# Altium schematic symbol library Sajad_Altium_Library.SchLib: 390 symbols (part 3 of 4)
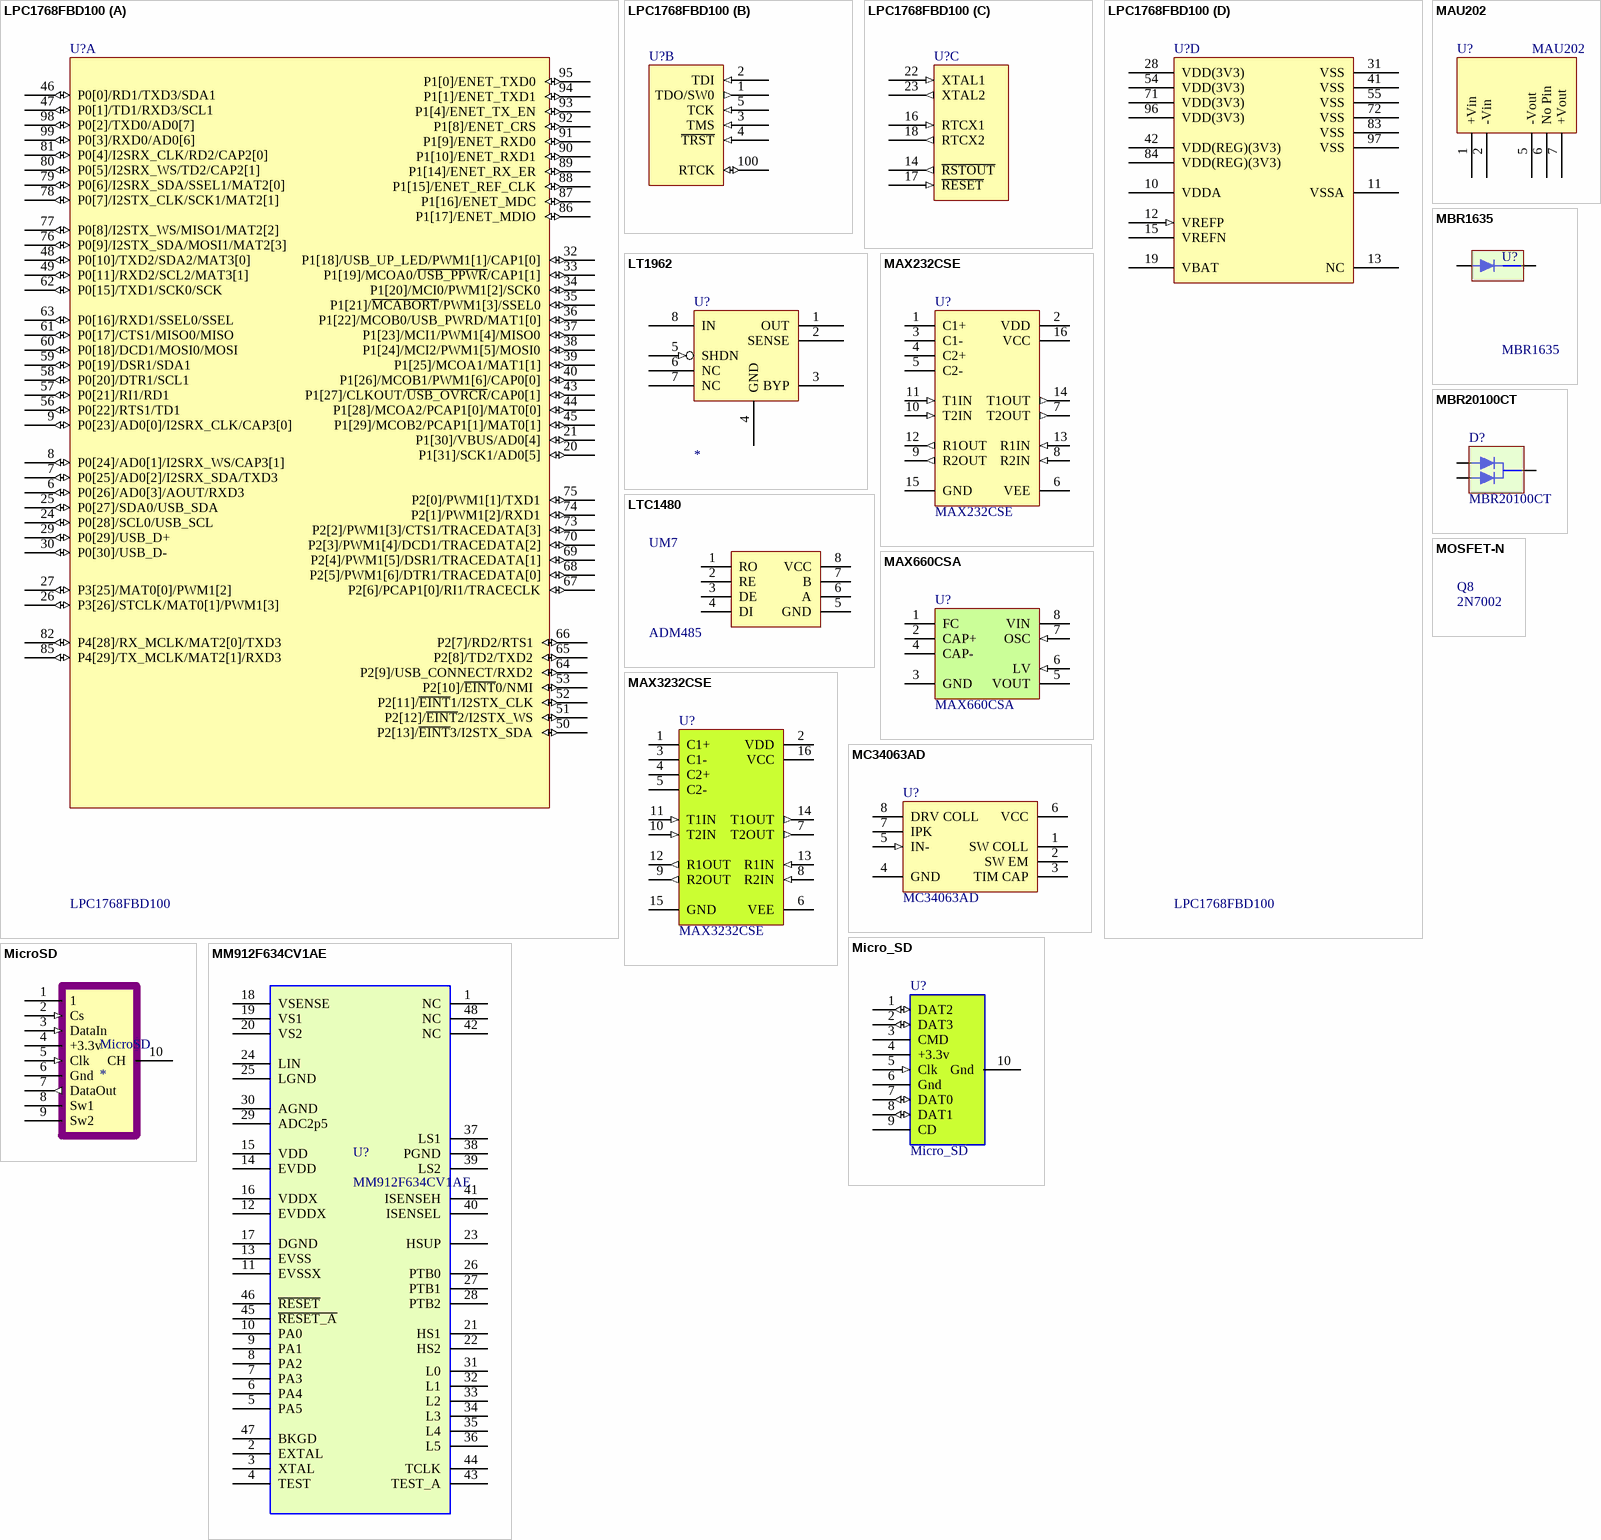
[diagram p21: symbols LPC1768FBD100 to MOSFET-N]

## MAX3232CSE
designator U?
3.0V to 5.5V, Low-Power, up to 1Mbps, True RS-232  Transceivers Using Four 0.1µF External Capacitors; Published: 16-Jan-2001; LatestRevisionDate: 13-Apr-2006; LatestRevisionNote: IPC-7351 Footprint Added.; PackageReference: NSO16; Publisher: Altium Limited; PackageDescription: 16-Pin Small Outline Integrated Circuit 1.27 mm Pitch; Code_JEDEC: MS-012-AC; Code_IPC: SOIC127P600-16; ComponentLink1Description: Manufacturer Link; ComponentLink1URL: http://www.maxim-ic.com/; ComponentLink2Description: Datasheet; ComponentLink2URL: http://pdfserv.maxim-ic.com/en/ds/MAX220-MAX249.pdf
footprint SO16
pins: 1 C1+, 2 VDD (power), 3 C1-, 4 C2+, 5 C2-, 6 VEE (power), 7 T2OUT (out), 8 R2IN (in), 9 R2OUT (out), 10 T2IN (in), 11 T1IN (in), 12 R1OUT (out), 13 R1IN (in), 14 T1OUT (out), 15 GND (power), 16 VCC (power)

## MBR1635
designator U?
16A Schottky Barrier Rectifier; Link: http://javanelec.com/Shops/ProductDetail/37828?part_number=MBR1635
footprint TO220 - ac (TO220)
pins: 1 A, 2 K

## MBR20100CT
designator D?
SCHOTTKY BARRIER 20 AMPERES 80−100 VOLTS
footprint TO220
pins: 1 A1, 2 K, 3 A2

## MC34063AD
designator U?
DC-to-DC Converter Control Circuit; Published: 15-Apr-2002; LatestRevisionDate: 13-Apr-2006; LatestRevisionNote: IPC-7351 Footprint Added.; DatasheetVersion: 1996; PackageVersion: 1998; PackageReference: 751-05; Publisher: Altium Limited; PackageDescription: 8-Pin Small Outline Integrated Circuit 1.27 mm Pitch; Code_JEDEC: MS-012-AA; Code_IPC: SOIC127P600-8; ComponentLink1Description: Manufacturer Link; ComponentLink1URL: http://www.onsemi.com/site/products/taxonomy/0,4438,503,00.html; ComponentLink2Description: Datasheet; ComponentLink2URL: http://www.onsemi.com/pub/Collateral/MC34063A-D.PDF
footprint SO8
pins: 1 SW COLL, 2 SW EM, 3 TIM CAP, 4 GND (power), 5 IN- (in), 6 VCC (power), 7 IPK, 8 DRV COLL (oc)

## Micro_SD
designator U?
Micro sd in SD MODE 4pin
footprint MicroSd (MicroSd Conector)
footprint MicroSd Connector (MicroSd Conector)
pins: 1 DAT2 (io), 2 DAT3 (io), 3 CMD, 4 +3.3v, 5 Clk (in), 6 Gnd, 7 DAT0 (io), 8 DAT1 (io), 9 CD, 10 Gnd

## MicroSD
designator MicroSD
footprint MicroSd (MicroSd Conector)
footprint MicroSd Connector (MicroSd Conector)
pins: 1, 2 Cs (in), 3 DataIn (in), 4 +3.3v, 5 Clk (in), 6 Gnd, 7 DataOut (out), 8 Sw1, 9 Sw2, 10 CH

## MM912F634CV1AE
designator U?
Integrated S12 Based Relay  Driver with LIN
footprint TQFP48_M (48-Pin Thin Quad Flat Pack 0.5 mm Pitch, IPC Low Density)
pins: 1 NC, 2 EXTAL, 3 XTAL, 4 TEST, 5 PA5, 6 PA4, 7 PA3, 8 PA2, 9 PA1, 10 PA0, 11 EVSSX, 12 EVDDX, 13 EVSS, 14 EVDD, 15 VDD, 16 VDDX, 17 DGND, 18 VSENSE, 19 VS1, 20 VS2, 21 HS1, 22 HS2, 23 HSUP, 24 LIN, 25 LGND, 26 PTB0, 27 PTB1, 28 PTB2, 29 ADC2p5, 30 AGND, 31 L0, 32 L1, 33 L2, 34 L3, 35 L4, 36 L5, 37 LS1, 38 PGND, 39 LS2, 40 ISENSEL, 41 ISENSEH, 42 NC, 43 TEST_A, 44 TCLK, 45 ~{RESET_A}, 46 ~{RESET}, 47 BKGD, 48 NC

## MOSFET-N
designator Q8, comment 2N7002
N-Channel MOSFET; Published: 8-Jun-2000; LatestRevisionDate: 17-Jul-2002; LatestRevisionNote: Re-released for DXP Platform.; PackageVersion: 1995/1996; PackageReference: E3; Publisher: Altium Limited; PackageDescription: TO, Flat Index; 3 In-Line, Axial Leads; Body Dia. 4.6mm; Lead Dia. 0.5 mm (max)
footprint E3 (TO, Flat Index; 3 In-Line, Axial Leads; Body Dia. 4.6mm; Lead Dia. 0.5 mm (max))
simulation model NMOS (MOSFET-N)

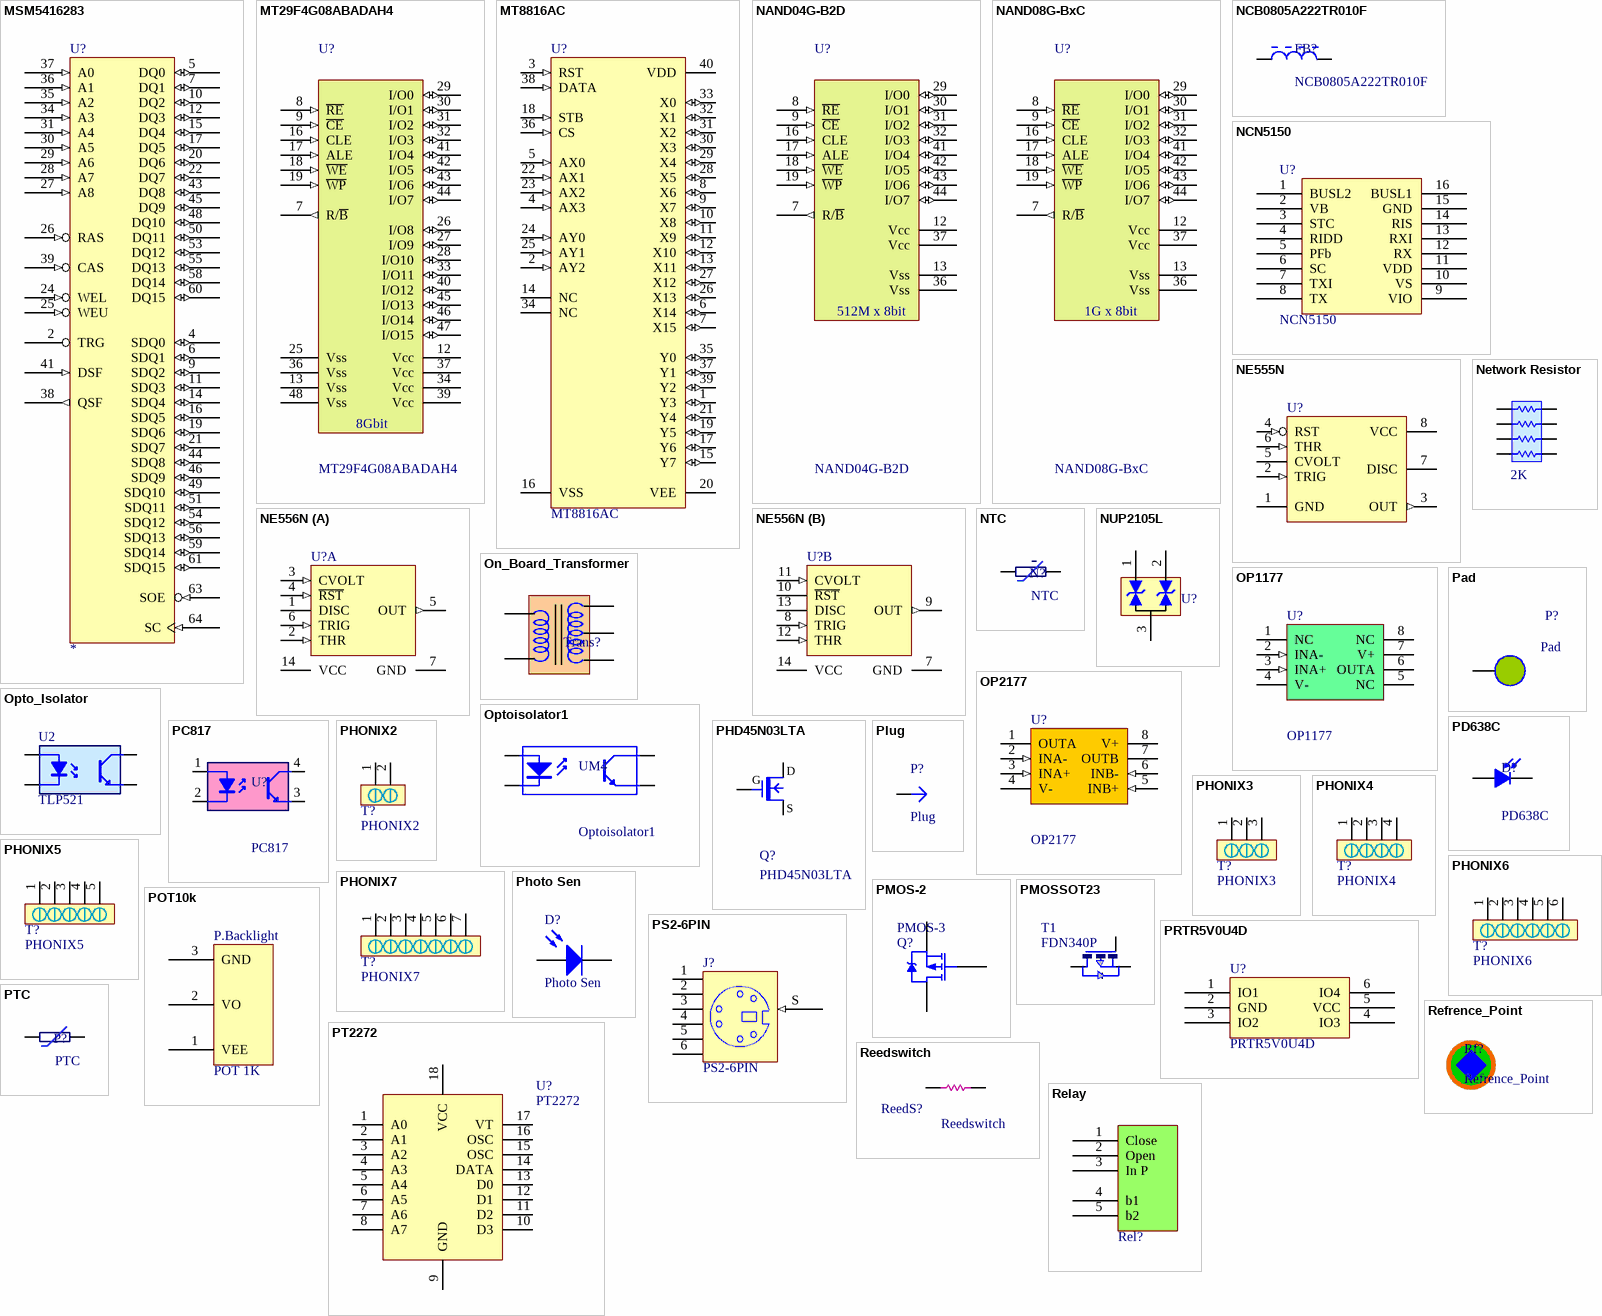
[diagram p11: symbols MSM5416283 to Relay]

## MSM5416283
designator U?
262,144-Word x 16-Bit Multiport DRAM
footprint SSOP64
pins: 1 VCC (power) hidden to VCC, 2 TRG, 3 GND (power) hidden to GND, 4 SDQ0 (io), 5 DQ0 (io), 6 SDQ1 (io), 7 DQ1 (io), 8 VCC (power) hidden to VCC, 9 SDQ2 (io), 10 DQ2 (io), 11 SDQ3 (io), 12 DQ3 (io), 13 GND (power) hidden to GND, 14 SDQ4 (io), 15 DQ4 (io), 16 SDQ5 (io), 17 DQ5 (io), 18 VCC (power) hidden to VCC, 19 SDQ6 (io), 20 DQ6 (io), 21 SDQ7 (io), 22 DQ7 (io), 23 GND (power) hidden to GND, 24 WEL (in), 25 WEU (in), 26 RAS (in), 27 A8 (in), 28 A7 (in), 29 A6 (in), 30 A5 (in), 31 A4 (in), 32 VCC (power) hidden to VCC, 33 GND (power) hidden to GND, 34 A3 (in), 35 A2 (in), 36 A1 (in), 37 A0 (in), 38 QSF (out), 39 CAS (in), 41 DSF (in), 42 GND (power) hidden to GND, 43 DQ8 (io), 44 SDQ8 (io), 45 DQ9 (io), 46 SDQ9 (io), 47 VCC (power) hidden to VCC, 48 DQ10 (io), 49 SDQ10 (io), 50 DQ11 (io), 51 SDQ11 (io), 52 GND (power) hidden to GND, 53 DQ12 (io), 54 SDQ12 (io), 55 DQ13 (io), 56 SDQ13 (io), 57 VCC (power) hidden to VCC, 58 DQ14 (io), 59 SDQ14 (io), 60 DQ15 (io), 61 SDQ15 (io), 62 GND (power) hidden to GND, 63 SOE (in), 64 SC (in)

## MT29F4G08ABADAH4
designator U?
4Gb, 8Gb x8, x16 NAND Flash Memory  Features
footprint TSOP48 (Shrink Small Outline, Plastic, Thin; 48 Leads; Body Width 18.4 mm; Pitch 0.5 mm)
pins: 7 R/~{B} (out), 8 ~{RE} (in), 9 ~{CE} (in), 12 Vcc, 13 Vss, 16 CLE (in), 17 ALE (in), 18 ~{W}~{E} (in), 19 ~{W}~{P} (in), 25 Vss, 26 I/O8 (io), 27 I/O9 (io), 28 I/O10 (io), 29 I/O0 (io), 30 I/O1 (io), 31 I/O2 (io), 32 I/O3 (io), 33 I/O11 (io), 34 Vcc, 36 Vss, 37 Vcc, 39 Vcc, 40 I/O12 (io), 41 I/O4 (io), 42 I/O5 (io), 43 I/O6 (io), 44 I/O7 (io), 45 I/O13 (io), 46 I/O14 (io), 47 I/O15 (io), 48 Vss
text: 8Gbit

## MT8816AC
designator U?
8 X 16 Analog Switch Array; Published: 8-Jun-2000; LatestRevisionDate: 17-Jul-2002; LatestRevisionNote: Re-released for DXP Platform.; DatasheetVersion: Issue 2 November 1988; PackageVersion: 1995; PackageReference: CDIP40; Publisher: Altium Limited; PackageDescription: DIP; 40 Leads; Row Spacing 15.24 mm; Pitch 2.54 mm; Code_JEDEC: MS-011-AC; ComponentLink1Description: Manufacturer Link; ComponentLink1URL: http://products.zarlink.com; ComponentLink2Description: Datasheet; ComponentLink2URL: http://assets.zarlink.com/DS/zarlink_MT8816_FEB_05.pdf
footprint DIP40 (DIP 40 pin)
pins: 1 Y3 (io), 2 AY2 (in), 3 RST (in), 4 AX3 (in), 5 AX0 (in), 6 X14 (io), 7 X15 (io), 8 X6 (io), 9 X7 (io), 10 X8 (io), 11 X9 (io), 12 X10 (io), 13 X11 (io), 14 NC, 15 Y7 (io), 16 VSS (power), 17 Y6 (io), 18 STB (in), 19 Y5 (io), 20 VEE (power), 21 Y4 (io), 22 AX1 (in), 23 AX2 (in), 24 AY0 (in), 25 AY1 (in), 26 X13 (io), 27 X12 (io), 28 X5 (io), 29 X4 (io), 30 X3 (io), 31 X2 (io), 32 X1 (io), 33 X0 (io), 34 NC, 35 Y0 (io), 36 CS (in), 37 Y1 (io), 38 DATA (in), 39 Y2 (io), 40 VDD (power)

## NAND04G-B2D
designator U?
4-Gbit, 8-Gbit, 2112-byte/1056-word page Nand Flash
footprint TSOP48 (Shrink Small Outline, Plastic, Thin; 48 Leads; Body Width 18.4 mm; Pitch 0.5 mm)
pins: 7 R/~{B} (out), 8 ~{RE} (in), 9 ~{CE} (in), 12 Vcc, 13 Vss, 16 CLE (in), 17 ALE (in), 18 ~{W}~{E} (in), 19 ~{W}~{P} (in), 29 I/O0 (io), 30 I/O1 (io), 31 I/O2 (io), 32 I/O3 (io), 36 Vss, 37 Vcc, 41 I/O4 (io), 42 I/O5 (io), 43 I/O6 (io), 44 I/O7 (io)
text: 512M x 8bit

## NAND08G-BxC
designator U?
8-Gbit, 2112-byte/1056-word page nand Flash
footprint TSOP48 (Shrink Small Outline, Plastic, Thin; 48 Leads; Body Width 18.4 mm; Pitch 0.5 mm)
pins: 7 R/~{B} (out), 8 ~{RE} (in), 9 ~{CE} (in), 12 Vcc, 13 Vss, 16 CLE (in), 17 ALE (in), 18 ~{W}~{E} (in), 19 ~{W}~{P} (in), 29 I/O0 (io), 30 I/O1 (io), 31 I/O2 (io), 32 I/O3 (io), 36 Vss, 37 Vcc, 41 I/O4 (io), 42 I/O5 (io), 43 I/O6 (io), 44 I/O7 (io)
text: 1G x 8bit

## NCB0805A222TR010F
designator FB?
Ferrite Chip Beads 2200ohm @ 100Mhz 0.75mOhm 100mA; Manufacturer: NIC Components; Website: http://www.findchips.com/avail?part=NCB0805A222TR010F
footprint 0805
pins: 1, 2 8

## NCN5150
designator U?
footprint SO16
pins: 1 BUSL2, 2 VB, 3 STC, 4 RIDD, 5 PFb, 6 SC, 7 TXI, 8 TX, 9 VIO, 10 VS, 11 VDD, 12 RX, 13 RXI, 14 RIS, 15 GND, 16 BUSL1

## NE555N
designator U?
General-Purpose Single Bipolar Timer; Published: 24-Aug-2001; LatestRevisionDate: 06-Jun-2005; LatestRevisionNote: Stylized 3D Model Added.; DatasheetVersion: Jul-1998; PackageReference: DIP8; Publisher: Altium Limited; PackageDescription: DIP; 8 Leads; Row Spacing 7.62 mm; Pitch 2.54 mm; Code_JEDEC: MO-001-AN; ComponentLink1Description: Manufacturer Link; ComponentLink1URL: http://www.st.com/; ComponentLink2Description: Datasheet; ComponentLink2URL: http://www.st.com/stonline/products/literature/ds/2182/ne555.pdf
footprint SO8
footprint DIP8 (DIP; 8 Leads; Row Spacing 7.62 mm; Pitch 2.54 mm)
pins: 1 GND (power), 2 TRIG (in), 3 OUT (out), 4 RST (in), 5 CVOLT, 6 THR (in), 7 DISC (oc), 8 VCC (power)

## NE556N
designator U?
General-Purpose Dual Bipolar Timer; Published: 24-Aug-2001; LatestRevisionDate: 06-Jun-2005; LatestRevisionNote: Stylized 3D Model Added.; DatasheetVersion: Jul-1998; PackageVersion: Jan-1997; PackageReference: DIP14; Publisher: Altium Limited; PackageDescription: DIP; 14 Leads; Row Spacing 7.62 mm; Pitch 2.54 mm; ComponentLink1Description: Manufacturer Link; ComponentLink1URL: http://www.st.com/; ComponentLink2Description: Datasheet; ComponentLink2URL: http://www.st.com/stonline/products/literature/ds/2183/ne556.pdf
footprint DIP14 (DIP; 14 Leads; Row Spacing 7.62 mm; Pitch 2.54 mm)
footprint SO14_M (SOIC, 14-Leads, Body 8.7x3.9mm, Pitch 1.27mm, IPC Low Density)
pins on every part: 7 GND (power), 14 VCC (power)
part A pins: 1 DISC (oc), 2 THR (in), 3 CVOLT (in), 4 ~{RST} (in), 5 OUT (out), 6 TRIG (in)
part B pins: 8 TRIG (in), 9 OUT (out), 10 ~{RST}, 11 CVOLT (in), 12 THR (in), 13 DISC (oc)

## Network Resistor
designator RN?, comment 2K
footprint Network Resistor 0603
pins: 1, 2, 3, 4, 5, 6, 7, 8

## NTC
designator N?
Published: 8-Jun-2000; LatestRevisionDate: 17-Jul-2002; LatestRevisionNote: Re-released for DXP Platform.; PackageReference: AXIAL-0.3; Publisher: Altium Limited
pins: 1, 2
text: -

## NUP2105L
designator U?  (value not drawn)
TVS Zener Diode
footprint SO-G3/C2.5
pins: 1, 2, 3
2 alternate drawings of the same symbol

## On_Board_Transformer
designator Trans?, comment Transformer  (value not drawn)
Inductor; Code_IEC: 1005; Published: 8-Jun-2000; LatestRevisionDate: 17-Jul-2002; LatestRevisionNote: Re-released for DXP Platform.; PackageReference: 0402-A; Publisher: Altium Limited; Code_JEITA: 0402
footprint Transformer (On Board Transformer)
pins: 1 (power), 5, 7, 8, 9

## OP1177
designator U?
Precision Low Noise, Low Input  Bias Current Operational Amplifiers; Link: http://javanelec.com/productsDetails.aspx?id=20666; Price: 38850 Rial
footprint SO8
pins: 1 NC, 2 INA- (in), 3 INA+ (in), 4 V- (power), 5 NC (power), 6 OUTA, 7 V+ (power), 8 NC (power)

## OP2177
designator U?
Precision Low Noise, Low Input  Bias Current Operational Amplifiers; Link: http://javanelec.com/productsDetails.aspx?id=20666; Price: 38850 Rial
footprint SO8
pins: 1 OUTA, 2 INA- (in), 3 INA+ (in), 4 V- (power), 5 INB+ (in), 6 INB- (in), 7 OUTB (power), 8 V+ (power)

## Opto_Isolator
designator U2, comment TLP521
Optoisolator
footprint DIP-4 (DIP; 4 Leads; Row Spacing 7.62 mm; Pitch 2.54 mm)
footprint SOP4_M (c)
pins: 1 A "Anode", 2 K "Cathode", 3 E "Emitter", 4 C "Collector"

## Optoisolator1
designator UM4
4-Pin Phototransistor Optocoupler; Published: 24-Mar-1999; LatestRevisionDate: 04-Mar-2005; LatestRevisionNote: Sch pins 3 & 4 Swapped.; DatasheetVersion: Nov-2003; PackageReference: DIP-4; Publisher: Altium Limited
footprint PS2501L (Opto)
pins: 1 A "Anode", 2 K "Cathode", 3 E "Emitter", 4 C "Collector"

## Pad
designator P?
Pad for TouchPad
footprint TouchPadBig
footprint TouchPadSmall
pins: 1

## PC817
designator U?
DIP 4pin General Purpose  Photocoupler
footprint DIP-4 (DIP; 4 Leads; Row Spacing 7.62 mm; Pitch 2.54 mm)
pins: 1 A "Anode", 2 K "Cathode", 3 E "Emitter", 4 C "Collector"

## PD638C
designator D?
2.75 ×5.25 mm Silicon PIN Photodiode
footprint PD638C (2.75 ×5.25 mm Silicon PIN Photodiode)
pins: 1 A, 2 K

## PHD45N03LTA
designator Q?
25 A N-channel enhancement mode field-effect transistor
footprint TO-252; pin to pad 2>4
pins: 1 G, 2 D, 3 S

## PHONIX2
designator T?
footprint PHONIX2
pins: 1, 2

## PHONIX3
designator T?
footprint PHONIX3
pins: 1, 2, 3

## PHONIX4
designator T?
footprint PHONIX4
pins: 1, 2, 3, 4

## PHONIX5
designator T?
footprint PHONIX5
pins: 1, 2, 3, 4, 5

## PHONIX6
designator T?
footprint PHONIX6
pins: 1, 2, 3, 4, 5, 6

## PHONIX7
designator T?
footprint PHONIX7
pins: 1, 2, 3, 4, 5, 6, 7

## Photo Sen
designator D?
Photosensitive Diode; Published: 24-Mar-1999; LatestRevisionDate: 17-Jul-2002; LatestRevisionNote: Re-released for DXP Platform.; PackageReference: PIN2; Publisher: Altium Limited
footprint PIN2 (Photosensitive Diode; 2 Leads)
pins: 1 A, 2 K

## Plug
designator P?
LatestRevisionDate: 17-Jul-2002; LatestRevisionNote: Re-released for DXP Platform.; Publisher: Altium Limited
pins: 1

## PMOS-2
designator Q?, comment PMOS-3
P-Channel Power MOSFET; Note: Pin 4 not drawn and electrically connected to Pin 2.; Published: 8-Jun-2000; LatestRevisionDate: 17-Jul-2002; LatestRevisionNote: Re-released for DXP Platform.; DatasheetVersion: PD-9.390D; PackageVersion: Feb-1997; PackageReference: TO-220AB; Publisher: Altium Limited; PackageDescription: TO, Thru-Hole, Vertical, Heatsink Mounted; 3 In-Line Leads; Pitch 2.54 mm; ComponentLink1Description: Manufacturer Link; ComponentLink1URL: http://www.irf.com/
footprint FDN360P
simulation model IRF9510 (Spice Subcircuit)
pins: 1 G, 2 D, 3 S

## PMOSSOT23
designator T1, comment FDN340P
footprint SOT-23 (Small Outline Transistor)
pins: 1 D, 2 S, 3 G

## POT10k
designator P.Backlight, comment POT 1K
footprint POT10
pins: 1 VEE, 2 VO, 3 GND

## PRTR5V0U4D
designator U?
ESD_Suppressor
footprint ESD_PRTR5V0U4D
pins: 1 IO1, 2 GND, 3 IO2, 4 IO3, 5 VCC, 6 IO4

## PS2-6PIN
designator J?
6 Pin Through Hole PS2 Socket (Kycon P/N); Published: 17-Dec-2003; Publisher: Altium Limited; ComponentLink1Description: Manufacturer Link; ComponentLink1URL: http://www.oupiin.com/prodindx.html#Headers
footprint PS2-6PIN (PS2 Socket, 6 Pin, Through Hole)
pins: 1, 2, 3, 4, 5, 6, S (in)

## PT2272
designator U?
footprint DIP18
pins: 1 A0, 2 A1, 3 A2, 4 A3, 5 A4, 6 A5, 7 A6, 8 A7, 9 GND, 10 D3, 11 D2, 12 D1, 13 D0, 14 DATA, 15 OSC, 16 OSC, 17 VT, 18 VCC

## PTC
designator P?
Published: 8-Jun-2000; LatestRevisionDate: 17-Jul-2002; LatestRevisionNote: Re-released for DXP Platform.; PackageReference: AXIAL-0.3; Publisher: Altium Limited
footprint PTC
pins: 1, 2

## Reedswitch
designator ReedS?
Resistor; Published: 8-Jun-2000; LatestRevisionDate: 17-Jul-2002; LatestRevisionNote: Re-released for DXP Platform.; PackageReference: AXIAL-0.3; Publisher: Altium Limited; PackageDescription: Axial Device, Thru-Hole; 2 Leads; 0.3 in Pin Spacing
footprint reed_sw
footprint REED_10MM
pins: 1, 2

## Refrence_Point
designator Rf?  (no BOM)
Refrence point for assembling pcb
footprint Refrence_Point (Refrence Point for Assembling Pcb)
footprint Refrence_Point 2 (Refrence Point for Assembling Pcb)

## Relay
designator Rel?, comment G2RL1E  (value not drawn)
Omron G2RL1E 12v 16A Relay
footprint Relay
pins: 1 Close, 2 Open, 3 In P, 4 b1, 5 b2

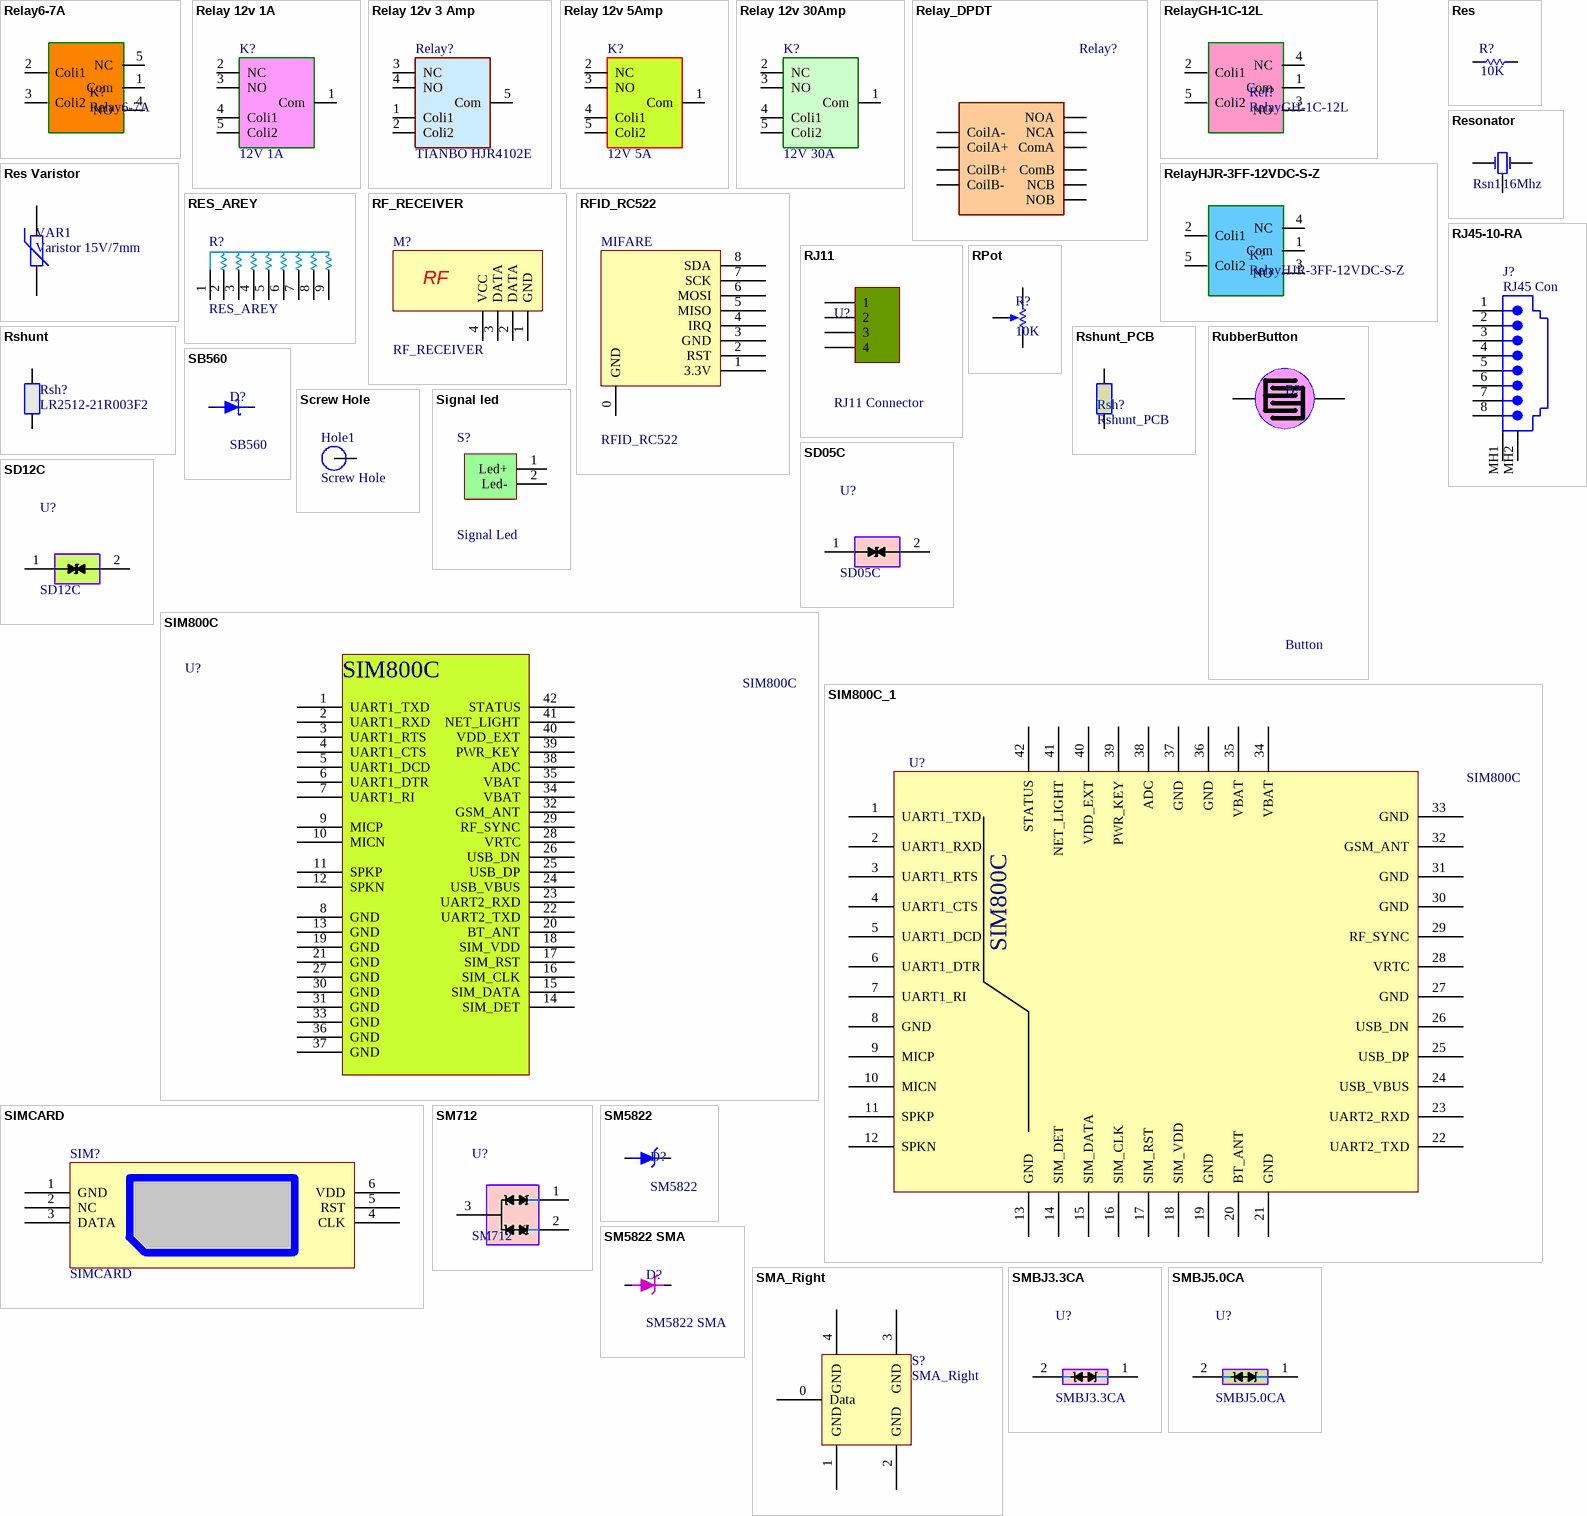
[diagram p12: symbols Relay6-7A to SMBJ5.0CA]

## Relay6-7A
designator K?
Single-Pole Dual-Throw Relay
footprint Relay Mini Milon
pins: 1 Com (power), 2 Coli1 (power), 3 Coli2 (power), 4 NO (power), 5 NC (power)

## Relay 12v 1A
designator K?, comment 12V 1A
12V 1A RELAY
footprint RELAY_12_CMD
pins: 1 Com (power), 2 NC (power), 3 NO (power), 4 Coli1 (power), 5 Coli2 (power)

## Relay 12v 3 Amp
designator Relay?, comment TIANBO HJR4102E
TIANBO 3A 12V RELAY
footprint TIANBO HJR4102E (TIANBO HJR4102E 12 v 3 A relay)
pins: 1 Coli1 (power), 2 Coli2 (power), 3 NC (power), 4 NO (power), 5 Com (power)

## Relay 12v 5Amp
designator K?, comment 12V 5A
12V 5A RELAY
footprint RELAY_12_10
pins: 1 Com (power), 2 NC (power), 3 NO (power), 4 Coli1 (power), 5 Coli2 (power)

## Relay 12v 30Amp
designator K?, comment 12V 30A
12V 30A RELAY
footprint RELAY_12_30
pins: 1 Com (power), 2 NC (power), 3 NO (power), 4 Coli1 (power), 5 Coli2 (power)

## Relay_DPDT
designator Relay?, comment JQC-16F  (value not drawn)
footprint RELAY_DOUBLE (JQC-16F)
pins: 1 CoilA+, 2 CoilA-, 3 NOA (power), 4 NCA (power), 5 ComA (power), 6 CoilB+, 7 CoilB-, 8 NOB (power), 9 NCB (power), 10 ComB (power)

## RelayGH-1C-12L
designator Rel?
HJR-3FF-12VDC-S-Z
footprint GH-1C-12L
pins: 1 Com (power), 2 Coli1 (power), 3 NO (power), 4 NC (power), 5 Coli2 (power)

## RelayHJR-3FF-12VDC-S-Z
designator K?
HJR-3FF-12VDC-S-Z
footprint HJR-3FF-12VDC-S-Z
pins: 1 Com (power), 2 Coli1 (power), 3 NO (power), 4 NC (power), 5 Coli2 (power)

## Res
designator R?, comment 10K
Resistor; Published: 8-Jun-2000; LatestRevisionDate: 17-Jul-2002; LatestRevisionNote: Re-released for DXP Platform.; PackageReference: AXIAL-0.3; Publisher: Altium Limited
footprint 0805
footprint 0603
footprint 1206_Res (1206 footprint)
footprint 0805 - big
footprint AXIAL-0.4 res (Axial Device, Thru-Hole; 2 Leads; 0.4 in Pin Spacing)
footprint RES20-16.5X6.5 (Resistor, Axial; Body 16.5 x 6.5 mm (LxDia. max), Lead Dia. 0.85 mm (max))
footprint 2512 (Footprint not found)
footprint 1225
footprint RES20 (Resistor, Axial; Body 16.5 x 6.5 mm (LxDia. max), Lead Dia. 0.85 mm (max))
footprint 0603 -sm
footprint AXIAL_KHAM-1W
footprint 0805_Medium
footprint RES_5W
pins: 1, 2

## Res Varistor
designator VAR1, comment Varistor 15V/7mm
Varistor (Voltage-Sensitive Resistor); Published: 24-Mar-1999; LatestRevisionDate: 29-May-2009; LatestRevisionNote: IPC-7351 Footprint Added.; PackageVersion: Mar-2003; PackageReference: 6-0805; Publisher: Altium Limited; PackageDescription: Chip Resistor 0805 Case Size; Code_IPC: RESC2012
footprint NTC0.3/.7
footprint 6-0805_L (Chip Resistor, Body 2.0x1.2mm, IPC High Density)
footprint 6-0805_M (Chip Resistor, Body 2.0x1.2mm, IPC Low Density)
pins: 1, 2

## RES_AREY
designator R?
footprint SIP9
pins: 1, 2, 3, 4, 5, 6, 7, 8, 9

## Resonator
designator Rsn1, comment 16Mhz
footprint RESONATOR
pins: 1 OSC1, 2 Gnd, 3 OSC2

## RF_RECEIVER
designator M?
footprint RF_RX
footprint RF_RX2
pins: 1 GND, 2 DATA, 3 DATA, 4 VCC
text: RF

## RFID_RC522
designator MIFARE
footprint RFID_RC522
pins: 0 GND, 1 3.3V, 2 RST, 3 GND, 4 IRQ, 5 MISO, 6 MOSI, 7 SCK, 8 SDA

## RJ11
designator U?, comment RJ11 Connector
RJ11; LatestRevisionDate: 17-Jul-2002; LatestRevisionNote: Re-released for DXP Platform.; Publisher: Altium Limited
footprint RJ11 (RJ11 CONNECTOR)
pins: 1, 2, 3, 4

## RJ45-10-RA
designator J?, comment RJ45 Con
Right Angle, Standard Profile, External Shield PCB Jack; Design Item Id: CON-RA-RJ45-95122-2881
footprint RJ-45 Connector (LAN Conector)
pins: 1, 2, 3, 4, 5, 6, 7, 8, MH1 Shield, MH2 Shield

## RPot
designator R?, comment 10K
Potentiometer
footprint SMD Pot (SMD Potentiometer)
footprint MultiTurn Pot (MultiTurn Potentiometer)
footprint Connector1x3 (Connector; Header; 3 Position)
footprint Potentiometer (potentiometer standing)
footprint POT4MM-2
pins: 1, 2, 3

## Rshunt
designator Rsh?, comment LR2512-21R003F2
Published: 8-Jun-2000; LatestRevisionDate: 17-Jul-2002; LatestRevisionNote: Re-released for DXP Platform.; PackageReference: AXIAL-0.3; Publisher: Altium Limited
footprint LR2512-21R003F2
pins: 1, 2

## Rshunt_PCB
designator Rsh?
Value: 3mOhm
footprint PCB_Shunt (3miliOhm)
footprint PCB_Shunt10m (10miliOhm)
pins: 1, 2

## RubberButton
designator B?, comment Button
Rubber button
footprint Button_Pad
pins: 1, 2

## SB560
designator D?
5 Amp Schottky Diode
footprint DO-201AD (Diode, Axial; Body 9.5 x 5.6 mm (LxDia. max), Lead Dia. 1.32 mm (max))
pins: 1 A, 2 K

## Screw Hole
designator Hole1  (no BOM)
footprint Hole_3mm-5mm
footprint Hole_4mm-5.5mm
pins: 1
2 alternate drawings of the same symbol

## SD05C
designator U?
Single Line TVS Diode for ESD  Protection
footprint 0805_MediumCap
pins: 1 "Speed", 2 "Speed"

## SD12C
designator U?
Single Line TVS Diode for ESD  Protection
footprint 0805_MediumCap
pins: 1 "Speed", 2 "Speed"

## Signal led
designator S?, comment Signal Led
footprint Signal LED (Signal_led)
pins: 1 Led+, 2 Led-

## SIM800C
designator U?
footprint SIM800C
pins: 1 UART1_TXD, 2 UART1_RXD, 3 UART1_RTS, 4 UART1_CTS, 5 UART1_DCD, 6 UART1_DTR, 7 UART1_RI, 8 GND, 9 MICP, 10 MICN, 11 SPKP, 12 SPKN, 13 GND, 14 SIM_DET, 15 SIM_DATA, 16 SIM_CLK, 17 SIM_RST, 18 SIM_VDD, 19 GND, 20 BT_ANT, 21 GND, 22 UART2_TXD, 23 UART2_RXD, 24 USB_VBUS, 25 USB_DP, 26 USB_DN, 27 GND, 28 VRTC, 29 RF_SYNC, 30 GND, 31 GND, 32 GSM_ANT, 33 GND, 34 VBAT, 35 VBAT, 36 GND, 37 GND, 38 ADC, 39 PWR_KEY, 40 VDD_EXT, 41 NET_LIGHT, 42 STATUS

## SIM800C_1
designator U?, comment SIM800C
footprint SIM800C
pins: 1 UART1_TXD, 2 UART1_RXD, 3 UART1_RTS, 4 UART1_CTS, 5 UART1_DCD, 6 UART1_DTR, 7 UART1_RI, 8 GND, 9 MICP, 10 MICN, 11 SPKP, 12 SPKN, 13 GND, 14 SIM_DET, 15 SIM_DATA, 16 SIM_CLK, 17 SIM_RST, 18 SIM_VDD, 19 GND, 20 BT_ANT, 21 GND, 22 UART2_TXD, 23 UART2_RXD, 24 USB_VBUS, 25 USB_DP, 26 USB_DN, 27 GND, 28 VRTC, 29 RF_SYNC, 30 GND, 31 GND, 32 GSM_ANT, 33 GND, 34 VBAT, 35 VBAT, 36 GND, 37 GND, 38 ADC, 39 PWR_KEY, 40 VDD_EXT, 41 NET_LIGHT, 42 STATUS

## SIMCARD
designator SIM?
footprint SIMCARD
pins: 1 GND, 2 NC, 3 DATA, 4 CLK, 5 RST, 6 VDD

## SM712
designator U?
TVS Diode for RS485; Link: http://javanelec.com/productsDetails.aspx?id=1540
footprint SOT23_
pins: 1 "Speed", 2 "Speed", 3 "Speed"

## SM5822
designator D?
3A Schottkey diode 40V
pins: 1 A, 2 K

## SM5822 SMA
designator D?
3 Amp Schottky Rectifier 40V; Link: http://www.javanelec.com/Shops/Index?searchFilter=ss34
footprint DO-214AA (DO-214AA (SMB))
pins: 1 A, 2 K

## SMA_Right
designator S?
footprint SMA_Right
pins: 0 Data, 1 GND, 2 GND, 3 GND, 4 GND

## SMBJ3.3CA
designator U?
TVS Diode for 3.3v; Link: javanElectronic; Price: 2625 Rial
footprint DO-214AC (1N4001-7 SMD DIODE)
pins: 1 "Speed", 2 "Speed"

## SMBJ5.0CA
designator U?
TVS Diode for 5v; Link: javanElectronic; Price: 2625 Rial
footprint DO-214AC (1N4001-7 SMD DIODE)
pins: 1 "Speed", 2 "Speed"

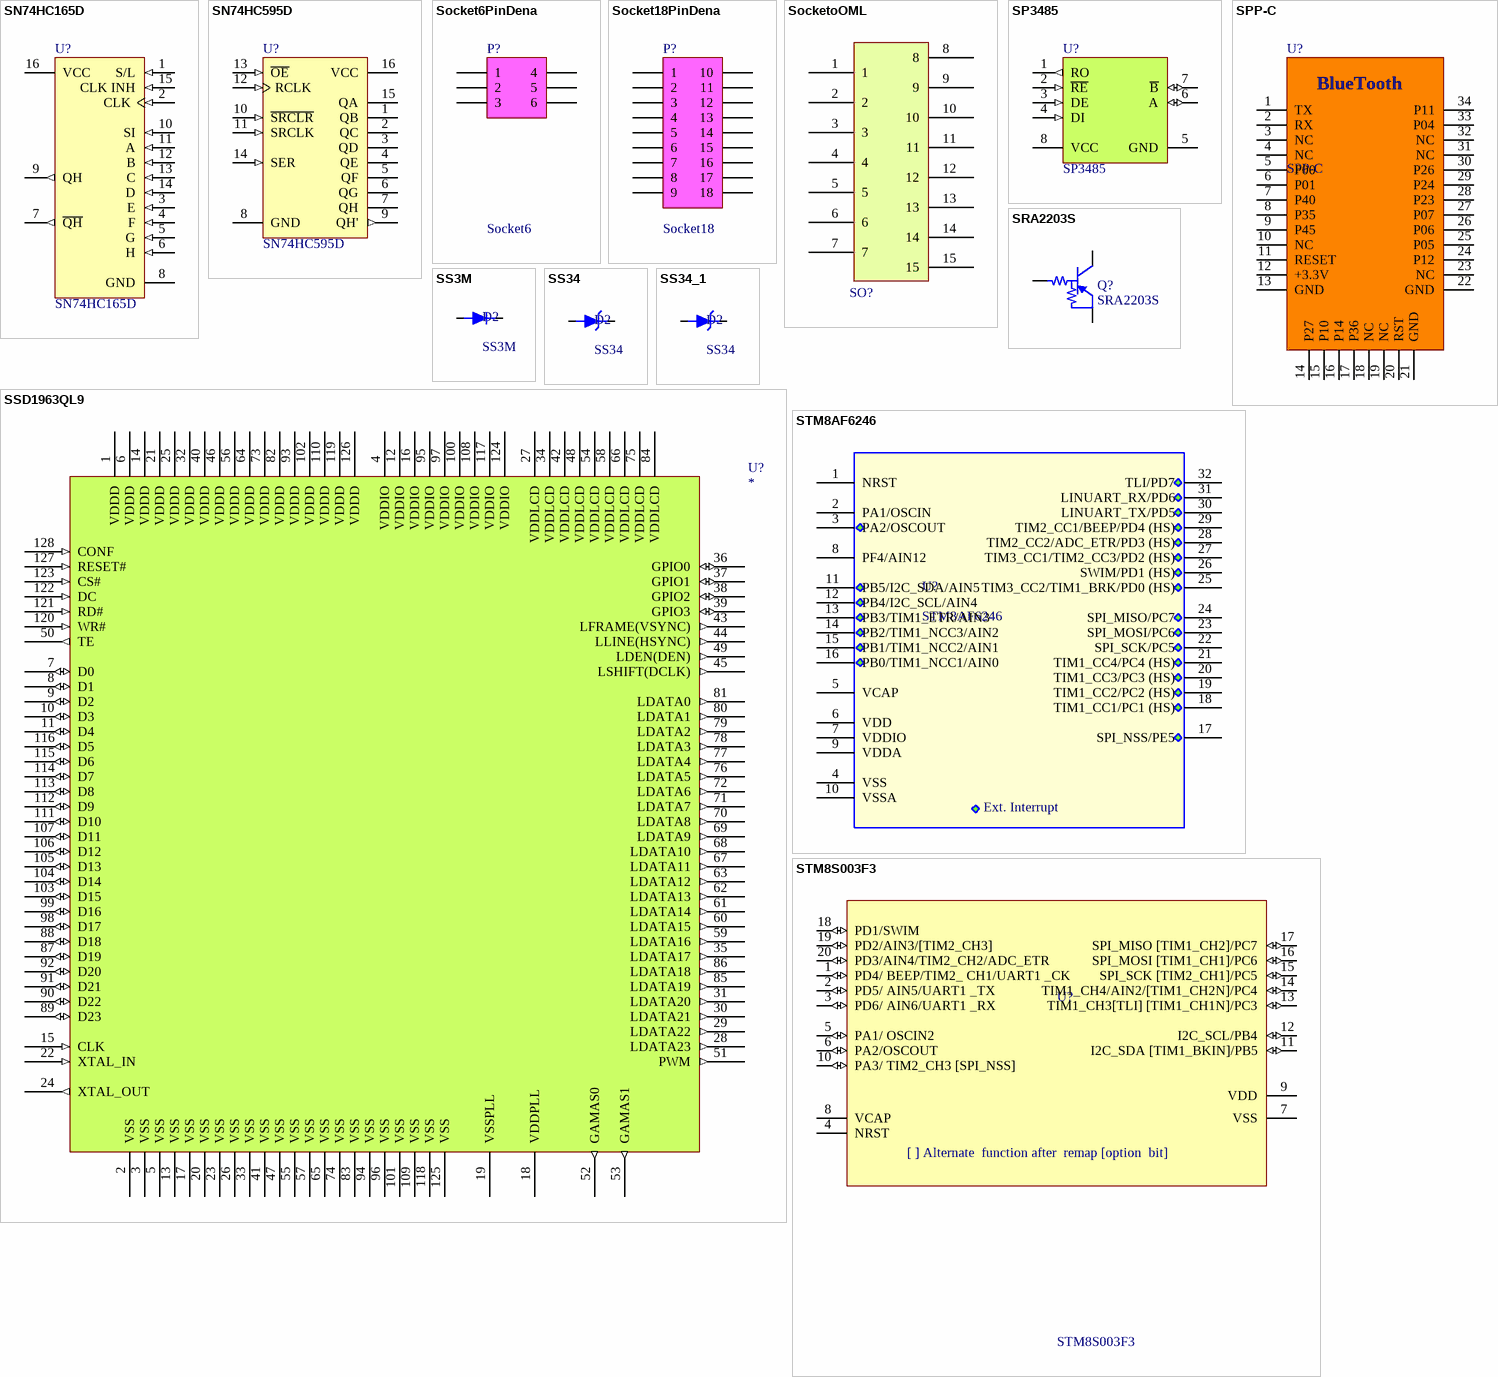
[diagram p13: symbols SN74HC165D to STM8S003F3]

## SN74HC165D
designator U?
8-Bit Parallel-Load Shift Register; Published: 8-Jun-2000; LatestRevisionDate: 13-Apr-2006; LatestRevisionNote: IPC-7351 Footprint Added.; DatasheetVersion: May-1997; PackageVersion: Jan-1998; PackageReference: D016; Publisher: Altium Limited; PackageDescription: 16-Pin Small Outline Integrated Circuit 1.27 mm Pitch; Code_IPC: SOIC127P600-16; ComponentLink1Description: Manufacturer Link; ComponentLink1URL: http://www.ti.com/; ComponentLink2Description: Datasheet; ComponentLink2URL: http://www-s.ti.com/sc/ds/sn74hc165.pdf
footprint SO16
pins: 1 S/L (in), 2 CLK (in), 3 E (in), 4 F (in), 5 G (in), 6 H (in), 7 ~{QH} (out), 8 GND (power), 9 QH (out), 10 SI (in), 11 A (in), 12 B (in), 13 C (in), 14 D (in), 15 CLK INH (in), 16 VCC (power)

## SN74HC595D
designator U?
8-Bit Shift Register with 3-State Output Registers; Published: 8-Jun-2000; LatestRevisionDate: 13-Apr-2006; LatestRevisionNote: IPC-7351 Footprint Added.; DatasheetVersion: May-1997; PackageVersion: Jan-1998; PackageReference: D016; Publisher: Altium Limited; PackageDescription: 16-Pin Small Outline Integrated Circuit 1.27 mm Pitch; Code_IPC: SOIC127P600-16; ComponentLink1Description: Manufacturer Link; ComponentLink1URL: http://www.ti.com/; ComponentLink2Description: Datasheet; ComponentLink2URL: http://www-s.ti.com/sc/ds/sn74hc595.pdf
footprint SO16
pins: 1 QB (hiz), 2 QC (hiz), 3 QD (hiz), 4 QE (hiz), 5 QF (hiz), 6 QG (hiz), 7 QH (hiz), 8 GND (power), 9 QH' (out), 10 ~{SRCLR} (in), 11 SRCLK (in), 12 RCLK (in), 13 ~{OE} (in), 14 SER (in), 15 QA (hiz), 16 VCC (power)

## Socket6PinDena
designator P?, comment Socket6
Socket 6 Pin for Dena & Samand
footprint Socket6Pin (for Dena & Samand Mirror)
pins: 1, 2, 3, 4, 5, 6

## Socket18PinDena
designator P?, comment Socket18
Socket 18 Pin for Dena & Samand
footprint Socket18Pin (for Dena & Samand Door)
pins: 1, 2, 3, 4, 5, 6, 7, 8, 9, 10, 11, 12, 13, 14, 15, 16, 17, 18

## SocketoOML
designator SO?, comment Socket  (value not drawn)
footprint SocketoOML
pins: 1, 2, 3, 4, 5, 6, 7, 8, 9, 10, 11, 12, 13, 14, 15

## SP3485
designator U?
+3.3V Low Power Half-Duplex RS-485   Transceiver with 10Mbps Data Rate; PartNumber: DS485M; Manufacturer: National Semiconductor; PackageTopMarking: NSZXTT*DS485*M; PowerWise: N; CompType: Interface IC; Published: 4-Dec-2008; DatasheetVersion: Jul-1998; PackageVersion: revM, May-2009; PackageReference: M08A; Publisher: Altium Limited; PackageDescription: SOIC Narrow, 4.9 x 3.9 x 1.45mm, 8 Lead, 1.27mm Pitch; Supplier 1: Farnell; Supplier Part Number 1: 9490078; RoHS: N; PinCount: 8; Code_JEDEC: MS-012-AA; Code_IPC: SOIC127P600-8; ComponentLink1Description: DS485 Datasheet; ComponentLink1URL: http://www.national.com/ds/DS/DS485.pdf; ComponentLink2Description: DS485 Web Page; ComponentLink2URL: http://www.national.com/pf/DS/DS485.html; ComponentLink3Description: M08A Package Page; ComponentLink3URL: http://www.national.com/packaging/folders/m08a.html
footprint SO8
pins: 1 RO (out), 2 ~{RE} (in), 3 DE (in), 4 DI (in), 5 GND (power), 6 A (io), 7 ~{B} (io), 8 VCC (power)

## SPP-C
designator U?
Bluetooth Serial Module
footprint SPP-C (Bluetooth module footprint)
pins: 1 TX, 2 RX, 3 NC, 4 NC, 5 P00, 6 P01, 7 P40, 8 P35, 9 P45, 10 NC, 11 RESET, 12 +3.3V, 13 GND, 14 P27, 15 P10, 16 P14, 17 P36, 18 NC, 19 NC, 20 RST, 21 GND, 22 GND, 23 NC, 24 P12, 25 P05, 26 P06, 27 P07, 28 P23, 29 P24, 30 P26, 31 NC, 32 NC, 33 P04, 34 P11
text: BlueTooth

## SRA2203S
designator Q?
PNP Silicon Transistor With built-in bias resistors
footprint SOT23_
pins: 1 B, 2 E, 3 C

## SS3M
designator D2
3A Schottkey diode
footprint DIODE - SMC
pins: 1 A, 2 K

## SS34
designator D2
3A Schottkey diode
footprint DIODE - SMC
pins: 1 A, 2 K

## SS34_1
designator D2, comment SS34
3A Schottkey diode
footprint DIODE - SMC
pins: 1 A, 2 K

## SSD1963QL9
designator U?
SSD1963QL9
footprint LQFP128
pins: 1 VDDD, 2 VSS, 3 VSS, 4 VDDIO, 5 VSS, 6 VDDD, 7 D0 (io), 8 D1 (io), 9 D2 (io), 10 D3 (io), 11 D4 (io), 12 VDDIO, 13 VSS, 14 VDDD, 15 CLK (in), 16 VDDIO, 17 VSS, 18 VDDPLL, 19 VSSPLL, 20 VSS, 21 VDDD, 22 XTAL_IN (in), 23 VSS, 24 XTAL_OUT (out), 25 VDDD, 26 VSS, 27 VDDLCD, 28 LDATA23 (out), 29 LDATA22 (out), 30 LDATA21 (out), 31 LDATA20 (out), 32 VDDD, 33 VSS, 34 VDDLCD, 35 LDATA17 (out), 36 GPIO0 (io), 37 GPIO1 (io), 38 GPIO2 (io), 39 GPIO3 (io), 40 VDDD, 41 VSS, 42 VDDLCD, 43 LFRAME(VSYNC) (out), 44 LLINE(HSYNC) (out), 45 LSHIFT(DCLK) (out), 46 VDDD, 47 VSS, 48 VDDLCD, 49 LDEN(DEN) (out), 50 TE (out), 51 PWM (out), 52 GAMAS0 (out), 53 GAMAS1 (out), 54 VDDLCD, 55 VSS, 56 VDDD, 57 VSS, 58 VDDLCD, 59 LDATA16 (out), 60 LDATA15 (out), 61 LDATA14 (out), 62 LDATA13 (out), 63 LDATA12 (out), 64 VDDD, 65 VSS, 66 VDDLCD, 67 LDATA11 (out), 68 LDATA10 (out), 69 LDATA9 (out), 70 LDATA8 (out), 71 LDATA7 (out), 72 LDATA6 (out), 73 VDDD, 74 VSS, 75 VDDLCD, 76 LDATA5 (out), 77 LDATA4 (out), 78 LDATA3 (out), 79 LDATA2 (out), 80 LDATA1 (out), 81 LDATA0 (out), 82 VDDD, 83 VSS, 84 VDDLCD, 85 LDATA19 (out), 86 LDATA18 (out), 87 D19 (io), 88 D18 (io), 89 D23 (io), 90 D22 (io), 91 D21 (io), 92 D20 (io), 93 VDDD, 94 VSS, 95 VDDIO, 96 VSS, 97 VDDIO, 98 D17 (io), 99 D16 (io), 100 VDDIO, 101 VSS, 102 VDDD, 103 D15 (io), 104 D14 (io), 105 D13 (io), 106 D12 (io), 107 D11 (io), 108 VDDIO, 109 VSS, 110 VDDD, 111 D10 (io), 112 D9 (io), 113 D8 (io), 114 D7 (io), 115 D6 (io), 116 D5 (io), 117 VDDIO, 118 VSS, 119 VDDD, 120 WR# (in), 121 RD# (in), 122 DC (in), 123 CS# (in), 124 VDDIO, 125 VSS, 126 VDDD, 127 RESET# (in), 128 CONF (in)

## STM8AF6246
designator U?
footprint LQFP32 (32-Pin Thin Quad Flat Pack 0.8 mm Pitch)
pins: 1 NRST, 2 PA1/OSCIN, 3 PA2/OSCOUT, 4 VSS, 5 VCAP, 6 VDD, 7 VDDIO, 8 PF4/AIN12, 9 VDDA, 10 VSSA, 11 PB5/I2C_SDA/AIN5, 12 PB4/I2C_SCL/AIN4, 13 PB3/TIM1_ETR/AIN3, 14 PB2/TIM1_NCC3/AIN2, 15 PB1/TIM1_NCC2/AIN1, 16 PB0/TIM1_NCC1/AIN0, 17 SPI_NSS/PE5, 18 TIM1_CC1/PC1 (HS), 19 TIM1_CC2/PC2 (HS), 20 TIM1_CC3/PC3 (HS), 21 TIM1_CC4/PC4 (HS), 22 SPI_SCK/PC5, 23 SPI_MOSI/PC6, 24 SPI_MISO/PC7, 25 TIM3_CC2/TIM1_BRK/PD0 (HS), 26 SWIM/PD1 (HS), 27 TIM3_CC1/TIM2_CC3/PD2 (HS), 28 TIM2_CC2/ADC_ETR/PD3 (HS), 29 TIM2_CC1/BEEP/PD4 (HS), 30 LINUART_TX/PD5, 31 LINUART_RX/PD6, 32 TLI/PD7
text: Ext. Interrupt

## STM8S003F3
designator U?
8-Bit ST Microcontroller with 8K Bytes Flash
footprint TSSOP 20 (20-pin, 4.40 mm body, 0.65 mm pitch)
pins: 1 PD4/ BEEP/TIM2_ CH1/UART1 _CK (io), 2 PD5/ AIN5/UART1 _TX (io), 3 PD6/ AIN6/UART1 _RX (io), 4 NRST, 5 PA1/ OSCIN2 (io), 6 PA2/OSCOUT (io), 7 VSS, 8 VCAP, 9 VDD, 10 PA3/ TIM2_CH3 [SPI_NSS] (io), 11 I2C_SDA [TIM1_BKIN]/PB5 (io), 12 I2C_SCL/PB4 (io), 13 TIM1_CH3[TLI] [TIM1_CH1N]/PC3 (io), 14 TIM1_CH4/AIN2/[TIM1_CH2N]/PC4 (io), 15 SPI_SCK [TIM2_CH1]/PC5 (io), 16 SPI_MOSI [TIM1_CH1]/PC6 (io), 17 SPI_MISO [TIM1_CH2]/PC7 (io), 18 PD1/SWIM (io), 19 PD2/AIN3/[TIM2_CH3] (io), 20 PD3/AIN4/TIM2_CH2/ADC_ETR (io)
text: [ ] Alternate  function after  remap [option  bit]

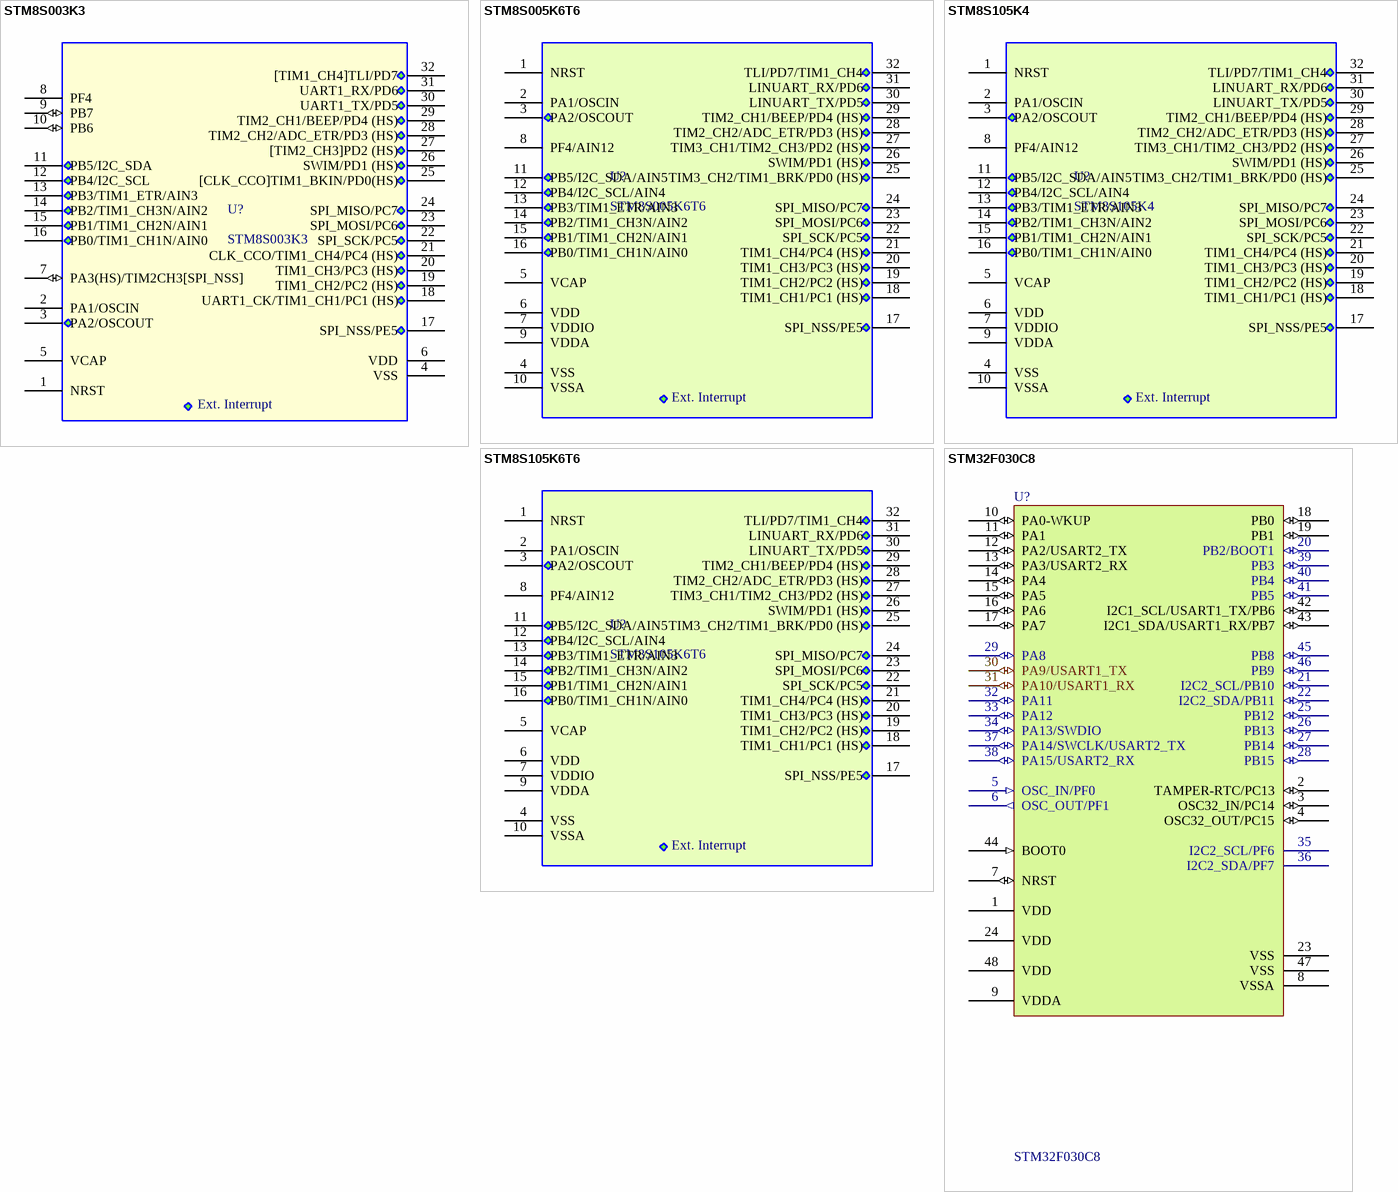
[diagram p14: symbols STM8S003K3 to STM32F030C8]

## STM8S003K3
designator U?
Value line, 16 MHz STM8S 8-bit MCU, 8 Kbytes Flash, 128 bytes  data EEPROM, 10-bit ADC, 3 timers, UART, SPI, I2C
footprint LQFP32 (32-Pin Thin Quad Flat Pack 0.8 mm Pitch)
pins: 1 NRST, 2 PA1/OSCIN, 3 PA2/OSCOUT, 4 VSS, 5 VCAP, 6 VDD, 7 PA3(HS)/TIM2CH3[SPI_NSS] (io), 8 PF4, 9 PB7 (io), 10 PB6 (io), 11 PB5/I2C_SDA, 12 PB4/I2C_SCL, 13 PB3/TIM1_ETR/AIN3, 14 PB2/TIM1_CH3N/AIN2, 15 PB1/TIM1_CH2N/AIN1, 16 PB0/TIM1_CH1N/AIN0, 17 SPI_NSS/PE5, 18 UART1_CK/TIM1_CH1/PC1 (HS), 19 TIM1_CH2/PC2 (HS), 20 TIM1_CH3/PC3 (HS), 21 CLK_CCO/TIM1_CH4/PC4 (HS), 22 SPI_SCK/PC5, 23 SPI_MOSI/PC6, 24 SPI_MISO/PC7, 25 [CLK_CCO]TIM1_BKIN/PD0(HS), 26 SWIM/PD1 (HS), 27 [TIM2_CH3]PD2 (HS), 28 TIM2_CH2/ADC_ETR/PD3 (HS), 29 TIM2_CH1/BEEP/PD4 (HS), 30 UART1_TX/PD5, 31 UART1_RX/PD6, 32 [TIM1_CH4]TLI/PD7
text: Ext. Interrupt

## STM8S005K6T6
designator U?
MCU 8-bit 32KB Flash 16 MHz STM8 LQFP32; FindsChip.com: http://www.findchips.com/search/STM8S005k6t6; Price: 0.7$
footprint LQFP32 (32-Pin Thin Quad Flat Pack 0.8 mm Pitch)
pins: 1 NRST, 2 PA1/OSCIN, 3 PA2/OSCOUT, 4 VSS, 5 VCAP, 6 VDD, 7 VDDIO, 8 PF4/AIN12, 9 VDDA, 10 VSSA, 11 PB5/I2C_SDA/AIN5, 12 PB4/I2C_SCL/AIN4, 13 PB3/TIM1_ETR/AIN3, 14 PB2/TIM1_CH3N/AIN2, 15 PB1/TIM1_CH2N/AIN1, 16 PB0/TIM1_CH1N/AIN0, 17 SPI_NSS/PE5, 18 TIM1_CH1/PC1 (HS), 19 TIM1_CH2/PC2 (HS), 20 TIM1_CH3/PC3 (HS), 21 TIM1_CH4/PC4 (HS), 22 SPI_SCK/PC5, 23 SPI_MOSI/PC6, 24 SPI_MISO/PC7, 25 TIM3_CH2/TIM1_BRK/PD0 (HS), 26 SWIM/PD1 (HS), 27 TIM3_CH1/TIM2_CH3/PD2 (HS), 28 TIM2_CH2/ADC_ETR/PD3 (HS), 29 TIM2_CH1/BEEP/PD4 (HS), 30 LINUART_TX/PD5, 31 LINUART_RX/PD6, 32 TLI/PD7/TIM1_CH4
text: Ext. Interrupt

## STM8S105K4
designator U?
MCU 8-bit 16KB Flash 16 MHz STM8 LQFP32 EEPROM; Javan Electronic: http://www.kavirelectronic.ir/eshop/%D9%85%DB%8C%DA%A9%D8%B1%D9%88%DA%A9%D9%86%D8%AA%D8%B1%D9%84%D8%B1-stm8/1200232--stm8s105k4t6c-.html; Price: 3900 toman; FindsChip Link: http://www.findchips.com/search/STM8S105K4T6C
footprint LQFP32 (32-Pin Thin Quad Flat Pack 0.8 mm Pitch)
pins: 1 NRST, 2 PA1/OSCIN, 3 PA2/OSCOUT, 4 VSS, 5 VCAP, 6 VDD, 7 VDDIO, 8 PF4/AIN12, 9 VDDA, 10 VSSA, 11 PB5/I2C_SDA/AIN5, 12 PB4/I2C_SCL/AIN4, 13 PB3/TIM1_ETR/AIN3, 14 PB2/TIM1_CH3N/AIN2, 15 PB1/TIM1_CH2N/AIN1, 16 PB0/TIM1_CH1N/AIN0, 17 SPI_NSS/PE5, 18 TIM1_CH1/PC1 (HS), 19 TIM1_CH2/PC2 (HS), 20 TIM1_CH3/PC3 (HS), 21 TIM1_CH4/PC4 (HS), 22 SPI_SCK/PC5, 23 SPI_MOSI/PC6, 24 SPI_MISO/PC7, 25 TIM3_CH2/TIM1_BRK/PD0 (HS), 26 SWIM/PD1 (HS), 27 TIM3_CH1/TIM2_CH3/PD2 (HS), 28 TIM2_CH2/ADC_ETR/PD3 (HS), 29 TIM2_CH1/BEEP/PD4 (HS), 30 LINUART_TX/PD5, 31 LINUART_RX/PD6, 32 TLI/PD7/TIM1_CH4
text: Ext. Interrupt

## STM8S105K6T6
designator U?
MCU 8-bit 32KB Flash 16 MHz STM8 LQFP32 EEPROM
footprint LQFP32 (32-Pin Thin Quad Flat Pack 0.8 mm Pitch)
pins: 1 NRST, 2 PA1/OSCIN, 3 PA2/OSCOUT, 4 VSS, 5 VCAP, 6 VDD, 7 VDDIO, 8 PF4/AIN12, 9 VDDA, 10 VSSA, 11 PB5/I2C_SDA/AIN5, 12 PB4/I2C_SCL/AIN4, 13 PB3/TIM1_ETR/AIN3, 14 PB2/TIM1_CH3N/AIN2, 15 PB1/TIM1_CH2N/AIN1, 16 PB0/TIM1_CH1N/AIN0, 17 SPI_NSS/PE5, 18 TIM1_CH1/PC1 (HS), 19 TIM1_CH2/PC2 (HS), 20 TIM1_CH3/PC3 (HS), 21 TIM1_CH4/PC4 (HS), 22 SPI_SCK/PC5, 23 SPI_MOSI/PC6, 24 SPI_MISO/PC7, 25 TIM3_CH2/TIM1_BRK/PD0 (HS), 26 SWIM/PD1 (HS), 27 TIM3_CH1/TIM2_CH3/PD2 (HS), 28 TIM2_CH2/ADC_ETR/PD3 (HS), 29 TIM2_CH1/BEEP/PD4 (HS), 30 LINUART_TX/PD5, 31 LINUART_RX/PD6, 32 TLI/PD7/TIM1_CH4
text: Ext. Interrupt

## STM32F030C8
designator U?
ARM Cortex-M0 32-bit RISC core (48 MHz max), 64kB Flash, 8 kB Internal RAM, -40 to +85°C, 48-Pin LQFP, Tray; ComponentLink1URL: http://www.st.com/
footprint TQFP48_M (48-Pin Thin Quad Flat Pack 0.5 mm Pitch, IPC Low Density)
pins: 1 VDD (power), 2 TAMPER-RTC/PC13 (io), 3 OSC32_IN/PC14 (io), 4 OSC32_OUT/PC15 (io), 5 OSC_IN/PF0 (in), 6 OSC_OUT/PF1 (out), 7 NRST (io), 8 VSSA (power), 9 VDDA (power), 10 PA0-WKUP (io), 11 PA1 (io), 12 PA2/USART2_TX (io), 13 PA3/USART2_RX (io), 14 PA4 (io), 15 PA5 (io), 16 PA6 (io), 17 PA7 (io), 18 PB0 (io), 19 PB1 (io), 20 PB2/BOOT1 (io), 21 I2C2_SCL/PB10 (io), 22 I2C2_SDA/PB11 (io), 23 VSS (power), 24 VDD (power), 25 PB12 (io), 26 PB13 (io), 27 PB14 (io), 28 PB15 (io), 29 PA8 (io), 30 PA9/USART1_TX (io), 31 PA10/USART1_RX (io), 32 PA11 (io), 33 PA12 (io), 34 PA13/SWDIO (io), 35 I2C2_SCL/PF6 (power), 36 I2C2_SDA/PF7 (power), 37 PA14/SWCLK/USART2_TX (io), 38 PA15/USART2_RX (io), 39 PB3 (io), 40 PB4 (io), 41 PB5 (io), 42 I2C1_SCL/USART1_TX/PB6 (io), 43 I2C1_SDA/USART1_RX/PB7 (io), 44 BOOT0 (in), 45 PB8 (io), 46 PB9 (io), 47 VSS (power), 48 VDD (power)

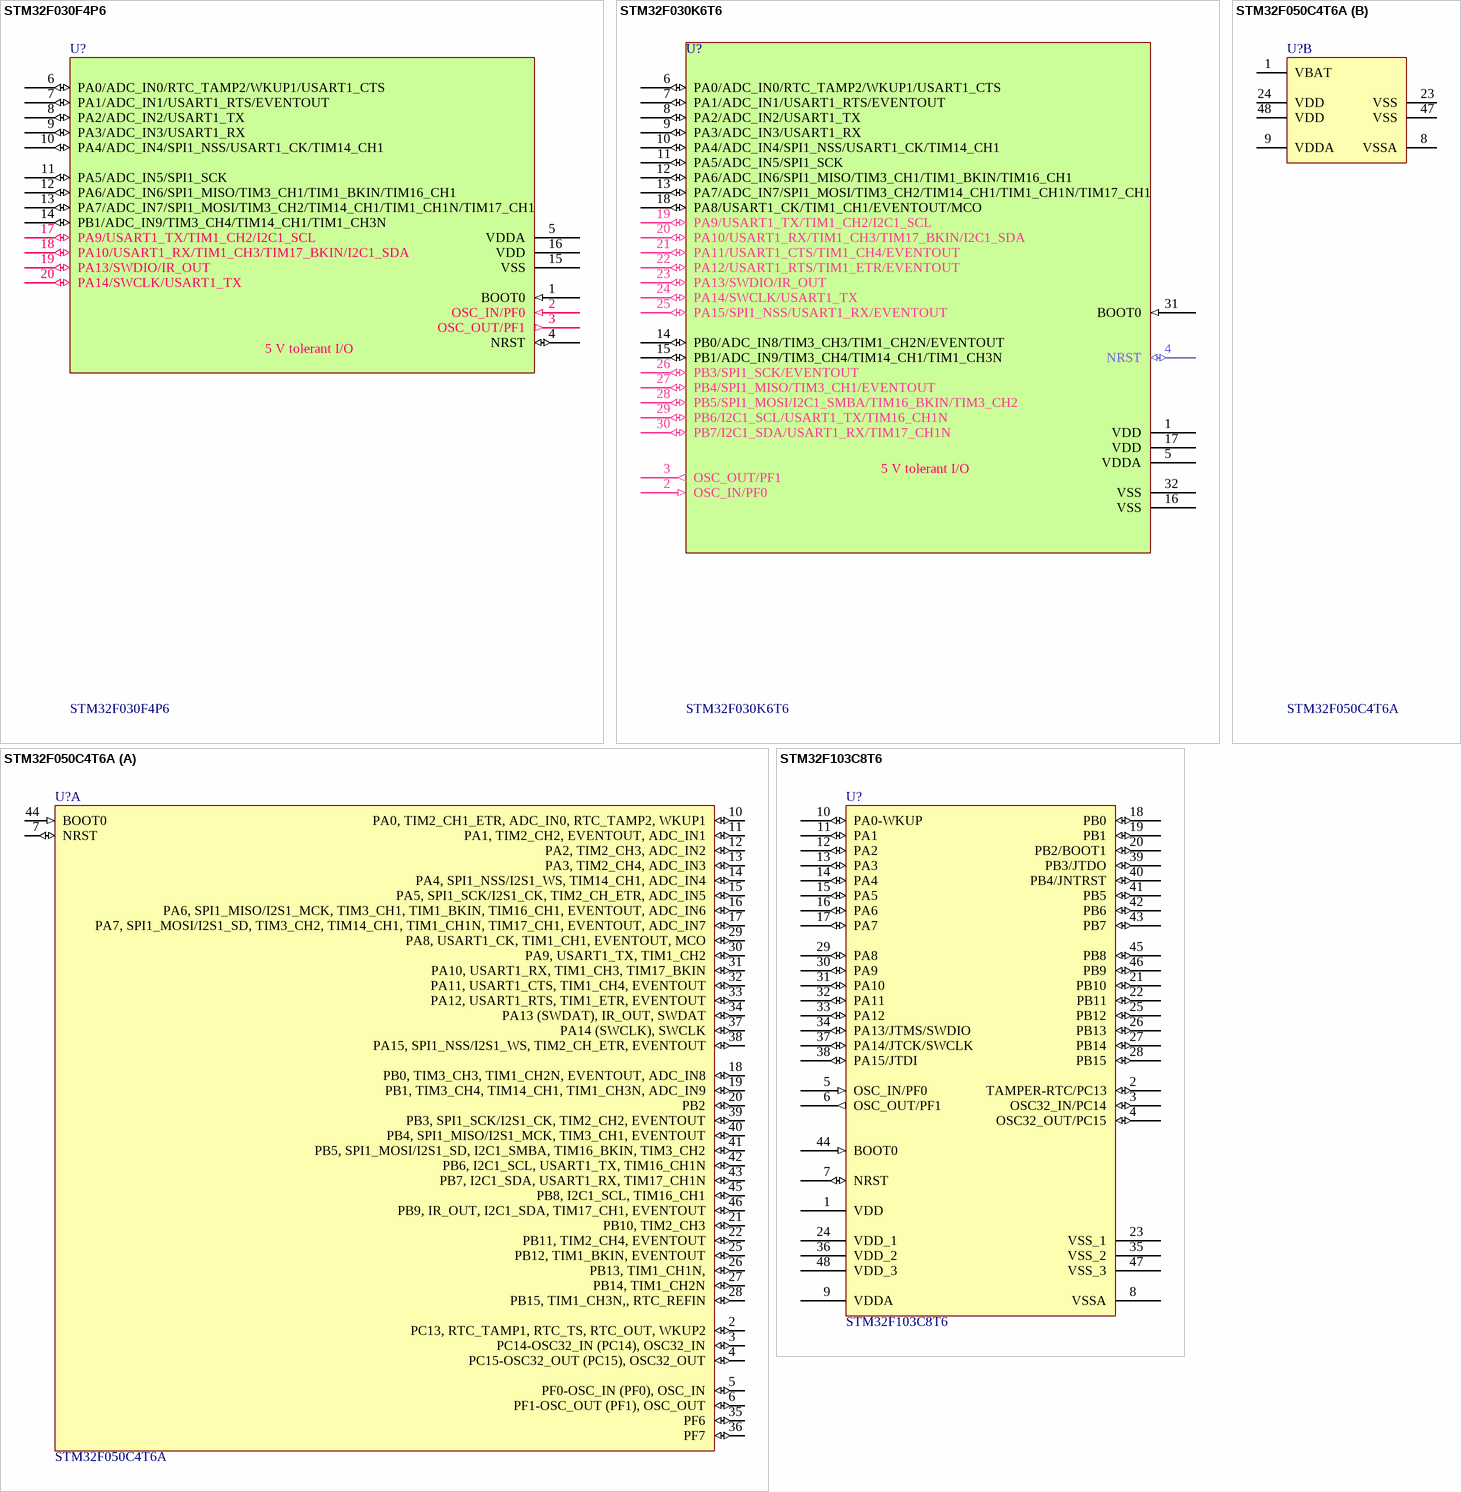
[diagram p15: symbols STM32F030F4P6 to STM32F103C8T6]

## STM32F030F4P6
designator U?
ARM Microcontrollers - MCU Value-Line ARM MCU 16kB 48 MHz; Link: http://javanelec.com/productsDetails.aspx?id=32659
footprint TSSOP20 (TSSOP 20 Pin)
pins: 1 BOOT0 (in), 2 OSC_IN/PF0 (in), 3 OSC_OUT/PF1 (out), 4 NRST (io), 5 VDDA (power), 6 PA0/ADC_IN0/RTC_TAMP2/WKUP1/USART1_CTS (io), 7 PA1/ADC_IN1/USART1_RTS/EVENTOUT (io), 8 PA2/ADC_IN2/USART1_TX (io), 9 PA3/ADC_IN3/USART1_RX (io), 10 PA4/ADC_IN4/SPI1_NSS/USART1_CK/TIM14_CH1 (io), 11 PA5/ADC_IN5/SPI1_SCK (io), 12 PA6/ADC_IN6/SPI1_MISO/TIM3_CH1/TIM1_BKIN/TIM16_CH1 (io), 13 PA7/ADC_IN7/SPI1_MOSI/TIM3_CH2/TIM14_CH1/TIM1_CH1N/TIM17_CH1 (io), 14 PB1/ADC_IN9/TIM3_CH4/TIM14_CH1/TIM1_CH3N (io), 15 VSS (power), 16 VDD (power), 17 PA9/USART1_TX/TIM1_CH2/I2C1_SCL (io), 18 PA10/USART1_RX/TIM1_CH3/TIM17_BKIN/I2C1_SDA (io), 19 PA13/SWDIO/IR_OUT (io), 20 PA14/SWCLK/USART1_TX (io)
text: 5 V tolerant I/O

## STM32F030K6T6
designator U?
ARM Microcontrollers - MCU Value-Line ARM MCU 32kB 48 MHz; Link: http://javanelec.com/productsDetails.aspx?id=32660
footprint LQFP32 (32-Pin Thin Quad Flat Pack 0.8 mm Pitch)
pins: 1 VDD (power), 2 OSC_IN/PF0 (in), 3 OSC_OUT/PF1 (out), 4 NRST (io), 5 VDDA (power), 6 PA0/ADC_IN0/RTC_TAMP2/WKUP1/USART1_CTS (io), 7 PA1/ADC_IN1/USART1_RTS/EVENTOUT (io), 8 PA2/ADC_IN2/USART1_TX (io), 9 PA3/ADC_IN3/USART1_RX (io), 10 PA4/ADC_IN4/SPI1_NSS/USART1_CK/TIM14_CH1 (io), 11 PA5/ADC_IN5/SPI1_SCK (io), 12 PA6/ADC_IN6/SPI1_MISO/TIM3_CH1/TIM1_BKIN/TIM16_CH1 (io), 13 PA7/ADC_IN7/SPI1_MOSI/TIM3_CH2/TIM14_CH1/TIM1_CH1N/TIM17_CH1 (io), 14 PB0/ADC_IN8/TIM3_CH3/TIM1_CH2N/EVENTOUT (io), 15 PB1/ADC_IN9/TIM3_CH4/TIM14_CH1/TIM1_CH3N (io), 16 VSS (power), 17 VDD (power), 18 PA8/USART1_CK/TIM1_CH1/EVENTOUT/MCO (io), 19 PA9/USART1_TX/TIM1_CH2/I2C1_SCL (io), 20 PA10/USART1_RX/TIM1_CH3/TIM17_BKIN/I2C1_SDA (io), 21 PA11/USART1_CTS/TIM1_CH4/EVENTOUT (io), 22 PA12/USART1_RTS/TIM1_ETR/EVENTOUT (io), 23 PA13/SWDIO/IR_OUT (io), 24 PA14/SWCLK/USART1_TX (io), 25 PA15/SPI1_NSS/USART1_RX/EVENTOUT (io), 26 PB3/SPI1_SCK/EVENTOUT (io), 27 PB4/SPI1_MISO/TIM3_CH1/EVENTOUT (io), 28 PB5/SPI1_MOSI/I2C1_SMBA/TIM16_BKIN/TIM3_CH2 (io), 29 PB6/I2C1_SCL/USART1_TX/TIM16_CH1N (io), 30 PB7/I2C1_SDA/USART1_RX/TIM17_CH1N (io), 31 BOOT0 (in), 32 VSS (power)
text: 5 V tolerant I/O

## STM32F050C4T6A
designator U?
ARM Cortex-M0 32-bit RISC core (48 MHz max), 16kB Flash, 4 kB Internal RAM, 39 High Current I/Os, -40 to +85°C, 48-Pin LQFP, Tray; 16-bit timers (IC/OC/PWM): 5x16-bit; 32-bit timer (IC/OC/PWM): 1x32-bit; Other timer functions: 2 x WDG, RTC, 24-bit down counter; A/D Converter: 10x12-bit; Serial Interface: 1xSPI;1xI2S;1xI2C;1xUSART(IrDA, ISO 7816); Supply Current(Icc) (Lowest power mode) typ (µA): 1.65; Supply Current(Icc) (Run mode (per Mhz)) typ (µA): 250; DatasheetVersion: rev2, Feb-2012; PackageVersion: rev13, Apr-2011; PackageReference: LQFP48; PackageDescription: 48-Pin Low-Profile Quad Flat Pack, 7 x 7 mm Body, 0.5 mm Pitch (LQFP48); ComponentLink1Description: Manufacturer URL; ComponentLink1URL: http://www.st.com/; ComponentLink2Description: Datasheet; ComponentLink2URL: http://www.st.com/internet/com/TECHNICAL_RESOURCES/TECHNICAL_LITERATURE/DATA_BRIEF/DM00047078.pdf; ComponentLink3Description: STM32F0 Web Page; ComponentLink3URL: http://www.st.com/internet/mcu/subclass/1588.jsp
footprint LQFP48_N (Thin QFP, 48-Leads, Body 7x7mm, Pitch 0.5mm, IPC Medium Density)
footprint LQFP48_L (Thin QFP, 48-Leads, Body 7x7mm, Pitch 0.5mm, IPC High Density)
footprint LQFP48_M (Thin QFP, 48-Leads, Body 7x7mm, Pitch 0.5mm, IPC Low Density)
part A pins: 2 PC13, RTC_TAMP1, RTC_TS, RTC_OUT, WKUP2 (io), 3 PC14-OSC32_IN (PC14), OSC32_IN (io), 4 PC15-OSC32_OUT (PC15), OSC32_OUT (io), 5 PF0-OSC_IN (PF0), OSC_IN (io), 6 PF1-OSC_OUT (PF1), OSC_OUT (io), 7 NRST (io), 10 PA0, TIM2_CH1_ETR, ADC_IN0, RTC_TAMP2, WKUP1 (io), 11 PA1, TIM2_CH2, EVENTOUT, ADC_IN1 (io), 12 PA2, TIM2_CH3, ADC_IN2 (io), 13 PA3, TIM2_CH4, ADC_IN3 (io), 14 PA4, SPI1_NSS/I2S1_WS, TIM14_CH1, ADC_IN4 (io), 15 PA5, SPI1_SCK/I2S1_CK, TIM2_CH_ETR, ADC_IN5 (io), 16 PA6, SPI1_MISO/I2S1_MCK, TIM3_CH1, TIM1_BKIN, TIM16_CH1, EVENTOUT, ADC_IN6 (io), 17 PA7, SPI1_MOSI/I2S1_SD, TIM3_CH2, TIM14_CH1, TIM1_CH1N, TIM17_CH1, EVENTOUT, ADC_IN7 (io), 18 PB0, TIM3_CH3, TIM1_CH2N, EVENTOUT, ADC_IN8 (io), 19 PB1, TIM3_CH4, TIM14_CH1, TIM1_CH3N, ADC_IN9 (io), 20 PB2 (io), 21 PB10, TIM2_CH3 (io), 22 PB11, TIM2_CH4, EVENTOUT (io), 25 PB12, TIM1_BKIN, EVENTOUT (io), 26 PB13, TIM1_CH1N, (io), 27 PB14, TIM1_CH2N (io), 28 PB15, TIM1_CH3N,, RTC_REFIN (io), 29 PA8, USART1_CK, TIM1_CH1, EVENTOUT, MCO (io), 30 PA9, USART1_TX, TIM1_CH2 (io), 31 PA10, USART1_RX, TIM1_CH3, TIM17_BKIN (io), 32 PA11, USART1_CTS, TIM1_CH4, EVENTOUT (io), 33 PA12, USART1_RTS, TIM1_ETR, EVENTOUT (io), 34 PA13 (SWDAT), IR_OUT, SWDAT (io), 35 PF6 (io), 36 PF7 (io), 37 PA14 (SWCLK), SWCLK (io), 38 PA15, SPI1_NSS/I2S1_WS, TIM2_CH_ETR, EVENTOUT (io), 39 PB3, SPI1_SCK/I2S1_CK, TIM2_CH2, EVENTOUT (io), 40 PB4, SPI1_MISO/I2S1_MCK, TIM3_CH1, EVENTOUT (io), 41 PB5, SPI1_MOSI/I2S1_SD, I2C1_SMBA, TIM16_BKIN, TIM3_CH2 (io), 42 PB6, I2C1_SCL, USART1_TX, TIM16_CH1N (io), 43 PB7, I2C1_SDA, USART1_RX, TIM17_CH1N (io), 44 BOOT0 (in), 45 PB8, I2C1_SCL, TIM16_CH1 (io), 46 PB9, IR_OUT, I2C1_SDA, TIM17_CH1, EVENTOUT (io)
part B pins: 1 VBAT (power), 8 VSSA (power), 9 VDDA (power), 23 VSS (power), 24 VDD (power), 47 VSS (power), 48 VDD (power)

## STM32F103C8T6
designator U?
STM32 ARM-based 32-bit MCU with 64 Kbytes Flash, 48-pin LQFP, Industrial Temperature; Published: 30-May-2008; DatasheetVersion: rev6, Mar-2008; PackageVersion: Mar-2008; PackageReference: LQFP48; Publisher: Altium Limited; PackageDescription: 48-Pin Low-Profile Quad Flat Pack, 7 x 7 mm Body, 0.5 mm Pitch (LQFP48); ComponentLink1Description: Manufacturer Link; ComponentLink1URL: www.st.com/stm32; ComponentLink2Description: Datasheet; ComponentLink2URL: http://www.st.com/stonline/products/literature/ds/13587.pdf
footprint LQFP48_N (Thin QFP, 48-Leads, Body 7x7mm, Pitch 0.5mm, IPC Medium Density)
footprint LQFP48_L (Thin QFP, 48-Leads, Body 7x7mm, Pitch 0.5mm, IPC High Density)
footprint LQFP48_M (Thin QFP, 48-Leads, Body 7x7mm, Pitch 0.5mm, IPC Low Density)
pins: 1 VDD (power), 2 TAMPER-RTC/PC13 (io), 3 OSC32_IN/PC14 (io), 4 OSC32_OUT/PC15 (io), 5 OSC_IN/PF0 (in), 6 OSC_OUT/PF1 (out), 7 NRST (io), 8 VSSA (power), 9 VDDA (power), 10 PA0-WKUP (io), 11 PA1 (io), 12 PA2 (io), 13 PA3 (io), 14 PA4 (io), 15 PA5 (io), 16 PA6 (io), 17 PA7 (io), 18 PB0 (io), 19 PB1 (io), 20 PB2/BOOT1 (io), 21 PB10 (io), 22 PB11 (io), 23 VSS_1 (power), 24 VDD_1 (power), 25 PB12 (io), 26 PB13 (io), 27 PB14 (io), 28 PB15 (io), 29 PA8 (io), 30 PA9 (io), 31 PA10 (io), 32 PA11 (io), 33 PA12 (io), 34 PA13/JTMS/SWDIO (io), 35 VSS_2 (power), 36 VDD_2 (power), 37 PA14/JTCK/SWCLK (io), 38 PA15/JTDI (io), 39 PB3/JTDO (io), 40 PB4/JNTRST (io), 41 PB5 (io), 42 PB6 (io), 43 PB7 (io), 44 BOOT0 (in), 45 PB8 (io), 46 PB9 (io), 47 VSS_3 (power), 48 VDD_3 (power)

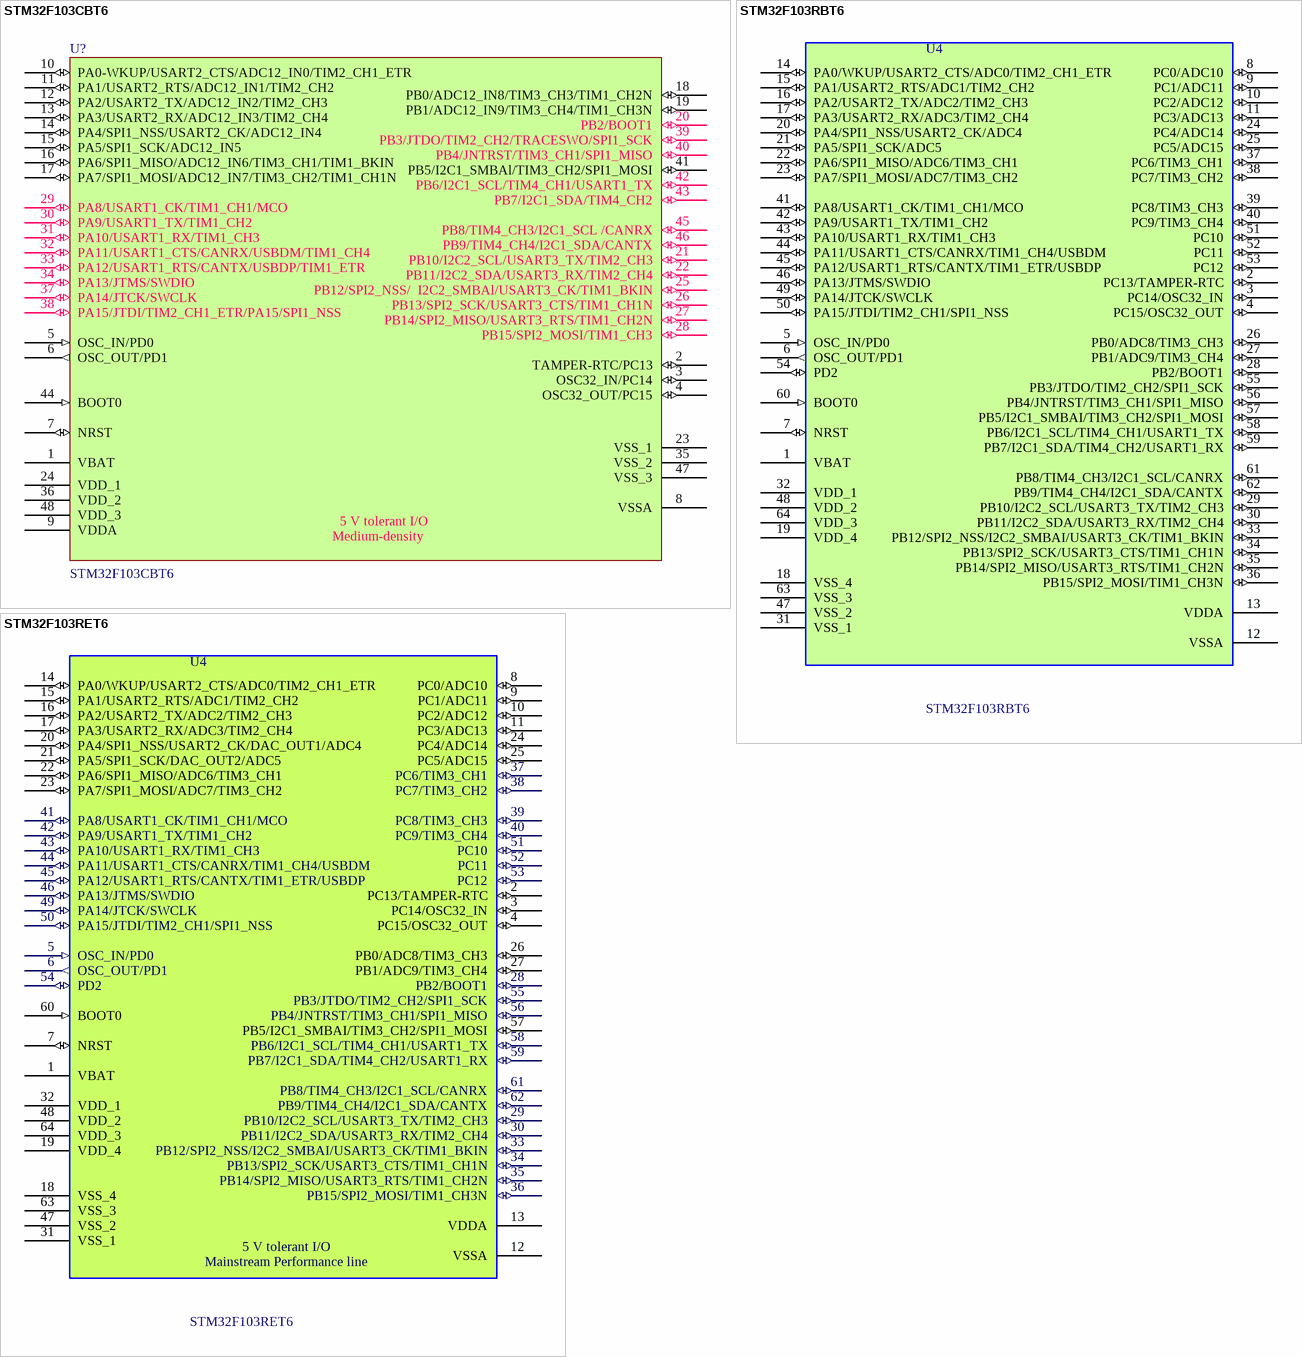
[diagram p16: symbols STM32F103CBT6 to STM32F103RET6]

## STM32F103CBT6
designator U?
Medium-density performance line ARM®-based 32-bit MCU with 64  or 128 KB Flash
footprint TQFP48_M (48-Pin Thin Quad Flat Pack 0.5 mm Pitch, IPC Low Density)
pins: 1 VBAT (power), 2 TAMPER-RTC/PC13 (io), 3 OSC32_IN/PC14 (io), 4 OSC32_OUT/PC15 (io), 5 OSC_IN/PD0 (in), 6 OSC_OUT/PD1 (out), 7 NRST (io), 8 VSSA (power), 9 VDDA (power), 10 PA0-WKUP/USART2_CTS/ADC12_IN0/TIM2_CH1_ETR (io), 11 PA1/USART2_RTS/ADC12_IN1/TIM2_CH2 (io), 12 PA2/USART2_TX/ADC12_IN2/TIM2_CH3 (io), 13 PA3/USART2_RX/ADC12_IN3/TIM2_CH4 (io), 14 PA4/SPI1_NSS/USART2_CK/ADC12_IN4 (io), 15 PA5/SPI1_SCK/ADC12_IN5 (io), 16 PA6/SPI1_MISO/ADC12_IN6/TIM3_CH1/TIM1_BKIN   (io), 17 PA7/SPI1_MOSI/ADC12_IN7/TIM3_CH2/TIM1_CH1N (io), 18 PB0/ADC12_IN8/TIM3_CH3/TIM1_CH2N (io), 19 PB1/ADC12_IN9/TIM3_CH4/TIM1_CH3N (io), 20 PB2/BOOT1 (io), 21 PB10/I2C2_SCL/USART3_TX/TIM2_CH3 (io), 22 PB11/I2C2_SDA/USART3_RX/TIM2_CH4 (io), 23 VSS_1 (power), 24 VDD_1 (power), 25 PB12/SPI2_NSS/  I2C2_SMBAl/USART3_CK/TIM1_BKIN (io), 26 PB13/SPI2_SCK/USART3_CTS/TIM1_CH1N (io), 27 PB14/SPI2_MISO/USART3_RTS/TIM1_CH2N (io), 28 PB15/SPI2_MOSI/TIM1_CH3 (io), 29 PA8/USART1_CK/TIM1_CH1/MCO (io), 30 PA9/USART1_TX/TIM1_CH2 (io), 31 PA10/USART1_RX/TIM1_CH3 (io), 32 PA11/USART1_CTS/CANRX/USBDM/TIM1_CH4 (io), 33 PA12/USART1_RTS/CANTX/USBDP/TIM1_ETR (io), 34 PA13/JTMS/SWDIO (io), 35 VSS_2 (power), 36 VDD_2 (power), 37 PA14/JTCK/SWCLK (io), 38 PA15/JTDI/TIM2_CH1_ETR/PA15/SPI1_NSS (io), 39 PB3/JTDO/TIM2_CH2/TRACESWO/SPI1_SCK (io), 40 PB4/JNTRST/TIM3_CH1/SPI1_MISO (io), 41 PB5/I2C1_SMBAl/TIM3_CH2/SPI1_MOSI (io), 42 PB6/I2C1_SCL/TIM4_CH1/USART1_TX (io), 43 PB7/I2C1_SDA/TIM4_CH2 (io), 44 BOOT0 (in), 45 PB8/TIM4_CH3/I2C1_SCL /CANRX (io), 46 PB9/TIM4_CH4/I2C1_SDA/CANTX (io), 47 VSS_3 (power), 48 VDD_3 (power)
text: 5 V tolerant I/O; Medium-density

## STM32F103RBT6
designator U4
STM32 ARM-based 32-bit MCU with 128 Kbytes Flash, 64-pin LQFP, Industrial Temperature; Published: 30-May-2008; DatasheetVersion: rev6, Mar-2008; PackageVersion: Mar-2008; PackageReference: LQFP64; Publisher: Altium Limited; PackageDescription: 64-Pin Low-Profile Quad Flat Pack, 10 x 10 mm Body, 0.5 mm Pitch (LQFP64); ComponentLink1Description: Manufacturer Link; ComponentLink1URL: www.st.com/stm32; ComponentLink2Description: Datasheet; ComponentLink2URL: http://www.st.com/stonline/products/literature/ds/13587.pdf
footprint LQFP64_M
pins: 1 VBAT (power), 2 PC13/TAMPER-RTC (io), 3 PC14/OSC32_IN (io), 4 PC15/OSC32_OUT (io), 5 OSC_IN/PD0 (in), 6 OSC_OUT/PD1 (out), 7 NRST (io), 8 PC0/ADC10 (io), 9 PC1/ADC11 (io), 10 PC2/ADC12 (io), 11 PC3/ADC13 (io), 12 VSSA (power), 13 VDDA (power), 14 PA0/WKUP/USART2_CTS/ADC0/TIM2_CH1_ETR (io), 15 PA1/USART2_RTS/ADC1/TIM2_CH2 (io), 16 PA2/USART2_TX/ADC2/TIM2_CH3 (io), 17 PA3/USART2_RX/ADC3/TIM2_CH4 (io), 18 VSS_4 (power), 19 VDD_4 (power), 20 PA4/SPI1_NSS/USART2_CK/ADC4 (io), 21 PA5/SPI1_SCK/ADC5 (io), 22 PA6/SPI1_MISO/ADC6/TIM3_CH1 (io), 23 PA7/SPI1_MOSI/ADC7/TIM3_CH2 (io), 24 PC4/ADC14 (io), 25 PC5/ADC15 (io), 26 PB0/ADC8/TIM3_CH3 (io), 27 PB1/ADC9/TIM3_CH4 (io), 28 PB2/BOOT1 (io), 29 PB10/I2C2_SCL/USART3_TX/TIM2_CH3 (io), 30 PB11/I2C2_SDA/USART3_RX/TIM2_CH4 (io), 31 VSS_1 (power), 32 VDD_1 (power), 33 PB12/SPI2_NSS/I2C2_SMBAI/USART3_CK/TIM1_BKIN (io), 34 PB13/SPI2_SCK/USART3_CTS/TIM1_CH1N (io), 35 PB14/SPI2_MISO/USART3_RTS/TIM1_CH2N (io), 36 PB15/SPI2_MOSI/TIM1_CH3N (io), 37 PC6/TIM3_CH1 (io), 38 PC7/TIM3_CH2 (io), 39 PC8/TIM3_CH3 (io), 40 PC9/TIM3_CH4 (io), 41 PA8/USART1_CK/TIM1_CH1/MCO (io), 42 PA9/USART1_TX/TIM1_CH2 (io), 43 PA10/USART1_RX/TIM1_CH3 (io), 44 PA11/USART1_CTS/CANRX/TIM1_CH4/USBDM (io), 45 PA12/USART1_RTS/CANTX/TIM1_ETR/USBDP (io), 46 PA13/JTMS/SWDIO (io), 47 VSS_2 (power), 48 VDD_2 (power), 49 PA14/JTCK/SWCLK (io), 50 PA15/JTDI/TIM2_CH1/SPI1_NSS (io), 51 PC10 (io), 52 PC11 (io), 53 PC12 (io), 54 PD2 (io), 55 PB3/JTDO/TIM2_CH2/SPI1_SCK (io), 56 PB4/JNTRST/TIM3_CH1/SPI1_MISO (io), 57 PB5/I2C1_SMBAI/TIM3_CH2/SPI1_MOSI (io), 58 PB6/I2C1_SCL/TIM4_CH1/USART1_TX (io), 59 PB7/I2C1_SDA/TIM4_CH2/USART1_RX (io), 60 BOOT0 (in), 61 PB8/TIM4_CH3/I2C1_SCL/CANRX (io), 62 PB9/TIM4_CH4/I2C1_SDA/CANTX (io), 63 VSS_3 (power), 64 VDD_3 (power)

## STM32F103RET6
designator U4
Mainstream Performance line, ARM Cortex-M3 MCU with 512 Kbytes Flash, 72 MHz CPU, motor control, USB and CAN; Published: 30-May-2008; DatasheetVersion: rev6, Mar-2008; PackageVersion: Mar-2008; PackageReference: LQFP64; Publisher: Altium Limited; PackageDescription: 64-Pin Low-Profile Quad Flat Pack, 10 x 10 mm Body, 0.5 mm Pitch (LQFP64); ComponentLink1Description: Manufacturer Link; ComponentLink1URL: www.st.com/stm32; ComponentLink2Description: Datasheet; ComponentLink2URL: http://www.st.com/stonline/products/literature/ds/13587.pdf
footprint LQFP64_M
pins: 1 VBAT (power), 2 PC13/TAMPER-RTC (io), 3 PC14/OSC32_IN (io), 4 PC15/OSC32_OUT (io), 5 OSC_IN/PD0 (in), 6 OSC_OUT/PD1 (out), 7 NRST (io), 8 PC0/ADC10 (io), 9 PC1/ADC11 (io), 10 PC2/ADC12 (io), 11 PC3/ADC13 (io), 12 VSSA (power), 13 VDDA (power), 14 PA0/WKUP/USART2_CTS/ADC0/TIM2_CH1_ETR (io), 15 PA1/USART2_RTS/ADC1/TIM2_CH2 (io), 16 PA2/USART2_TX/ADC2/TIM2_CH3 (io), 17 PA3/USART2_RX/ADC3/TIM2_CH4 (io), 18 VSS_4 (power), 19 VDD_4 (power), 20 PA4/SPI1_NSS/USART2_CK/DAC_OUT1/ADC4 (io), 21 PA5/SPI1_SCK/DAC_OUT2/ADC5 (io), 22 PA6/SPI1_MISO/ADC6/TIM3_CH1 (io), 23 PA7/SPI1_MOSI/ADC7/TIM3_CH2 (io), 24 PC4/ADC14 (io), 25 PC5/ADC15 (io), 26 PB0/ADC8/TIM3_CH3 (io), 27 PB1/ADC9/TIM3_CH4 (io), 28 PB2/BOOT1 (io), 29 PB10/I2C2_SCL/USART3_TX/TIM2_CH3 (io), 30 PB11/I2C2_SDA/USART3_RX/TIM2_CH4 (io), 31 VSS_1 (power), 32 VDD_1 (power), 33 PB12/SPI2_NSS/I2C2_SMBAI/USART3_CK/TIM1_BKIN (io), 34 PB13/SPI2_SCK/USART3_CTS/TIM1_CH1N (io), 35 PB14/SPI2_MISO/USART3_RTS/TIM1_CH2N (io), 36 PB15/SPI2_MOSI/TIM1_CH3N (io), 37 PC6/TIM3_CH1 (io), 38 PC7/TIM3_CH2 (io), 39 PC8/TIM3_CH3 (io), 40 PC9/TIM3_CH4 (io), 41 PA8/USART1_CK/TIM1_CH1/MCO (io), 42 PA9/USART1_TX/TIM1_CH2 (io), 43 PA10/USART1_RX/TIM1_CH3 (io), 44 PA11/USART1_CTS/CANRX/TIM1_CH4/USBDM (io), 45 PA12/USART1_RTS/CANTX/TIM1_ETR/USBDP (io), 46 PA13/JTMS/SWDIO (io), 47 VSS_2 (power), 48 VDD_2 (power), 49 PA14/JTCK/SWCLK (io), 50 PA15/JTDI/TIM2_CH1/SPI1_NSS (io), 51 PC10 (io), 52 PC11 (io), 53 PC12 (io), 54 PD2 (io), 55 PB3/JTDO/TIM2_CH2/SPI1_SCK (io), 56 PB4/JNTRST/TIM3_CH1/SPI1_MISO (io), 57 PB5/I2C1_SMBAI/TIM3_CH2/SPI1_MOSI (io), 58 PB6/I2C1_SCL/TIM4_CH1/USART1_TX (io), 59 PB7/I2C1_SDA/TIM4_CH2/USART1_RX (io), 60 BOOT0 (in), 61 PB8/TIM4_CH3/I2C1_SCL/CANRX (io), 62 PB9/TIM4_CH4/I2C1_SDA/CANTX (io), 63 VSS_3 (power), 64 VDD_3 (power)
text: 5 V tolerant I/O; Mainstream Performance line

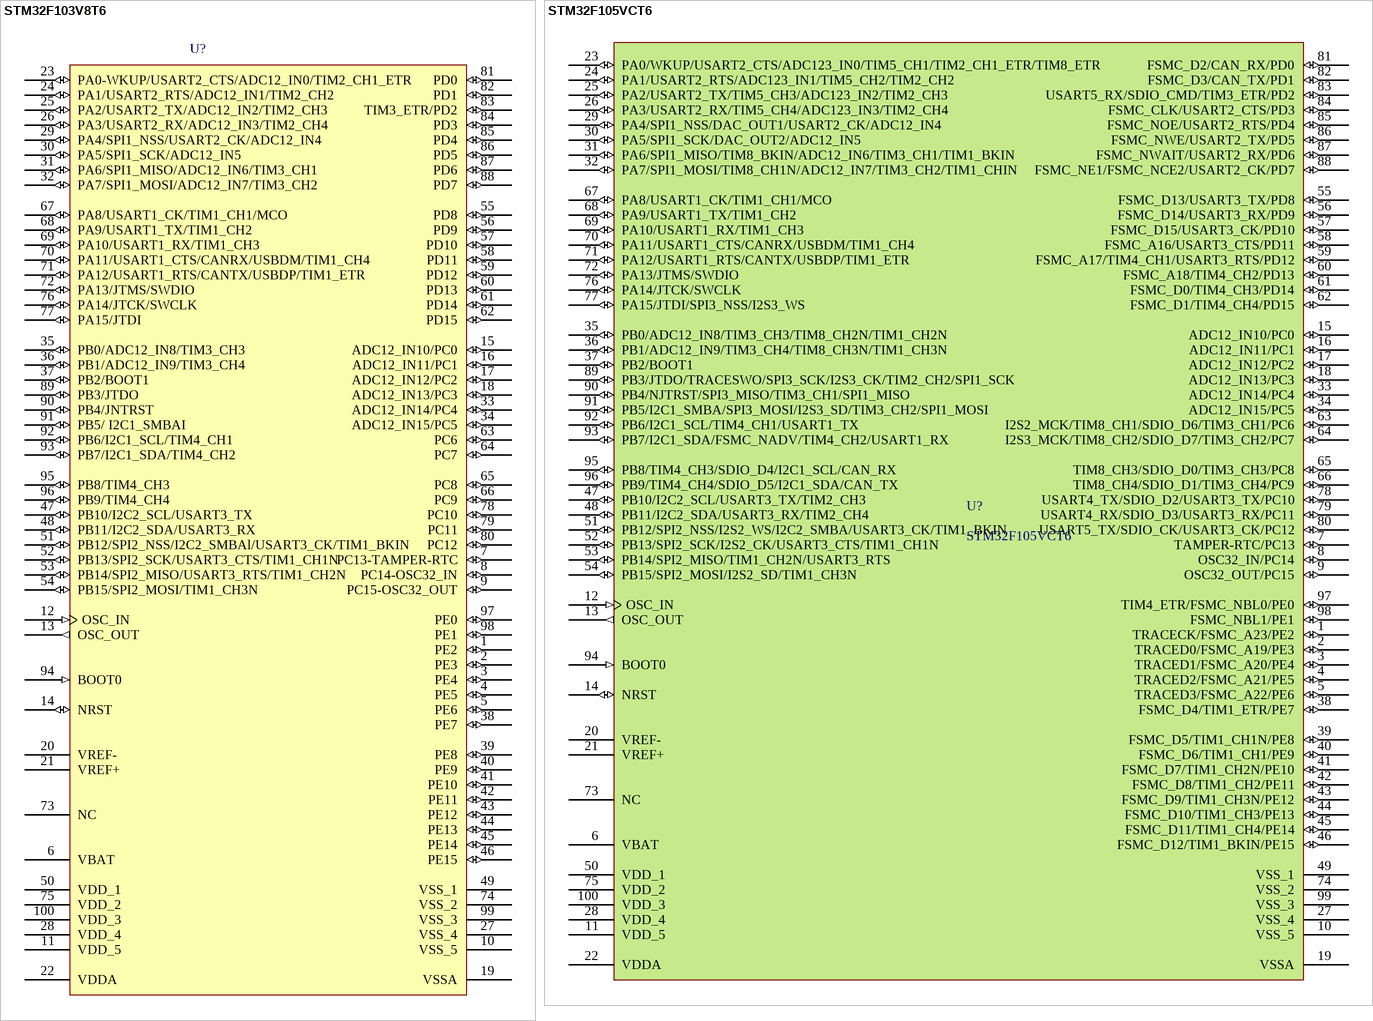
[diagram p17: symbols STM32F103V8T6 to STM32F105VCT6]

## STM32F103V8T6
designator U?
STM32 ARM-based 32-bit MCU with 64 Kbytes Flash, 100-pin LQFP, Industrial Temperature; Published: 30-May-2008; DatasheetVersion: rev6, Mar-2008; PackageVersion: Mar-2008; PackageReference: LQFP100; Publisher: Altium Limited; PackageDescription: 100-Pin Low-Profile Quad Flat Pack, 14 x 14 mm Body, 0.5 mm Pitch (LQFP100); ComponentLink1Description: Manufacturer Link; ComponentLink1URL: www.st.com/stm32; ComponentLink2Description: Datasheet; ComponentLink2URL: http://www.st.com/stonline/products/literature/ds/13587.pdf
footprint LQFP100_M (Thin QFP, 100-Leads, Body 14x14mm, Pitch 0.5mm, IPC Low Density)
pins: 1 PE2 (io), 2 PE3 (io), 3 PE4 (io), 4 PE5 (io), 5 PE6 (io), 6 VBAT (power), 7 PC13-TAMPER-RTC (io), 8 PC14-OSC32_IN (io), 9 PC15-OSC32_OUT (io), 10 VSS_5 (power), 11 VDD_5 (power), 12 OSC_IN (in), 13 OSC_OUT (out), 14 NRST (io), 15 ADC12_IN10/PC0 (io), 16 ADC12_IN11/PC1 (io), 17 ADC12_IN12/PC2 (io), 18 ADC12_IN13/PC3 (io), 19 VSSA (power), 20 VREF- (power), 21 VREF+ (power), 22 VDDA (power), 23 PA0-WKUP/USART2_CTS/ADC12_IN0/TIM2_CH1_ETR (io), 24 PA1/USART2_RTS/ADC12_IN1/TIM2_CH2 (io), 25 PA2/USART2_TX/ADC12_IN2/TIM2_CH3 (io), 26 PA3/USART2_RX/ADC12_IN3/TIM2_CH4 (io), 27 VSS_4 (power), 28 VDD_4 (power), 29 PA4/SPI1_NSS/USART2_CK/ADC12_IN4 (io), 30 PA5/SPI1_SCK/ADC12_IN5  (io), 31 PA6/SPI1_MISO/ADC12_IN6/TIM3_CH1 (io), 32 PA7/SPI1_MOSI/ADC12_IN7/TIM3_CH2 (io), 33 ADC12_IN14/PC4 (io), 34 ADC12_IN15/PC5 (io), 35 PB0/ADC12_IN8/TIM3_CH3 (io), 36 PB1/ADC12_IN9/TIM3_CH4 (io), 37 PB2/BOOT1 (io), 38 PE7 (io), 39 PE8 (io), 40 PE9 (io), 41 PE10 (io), 42 PE11 (io), 43 PE12 (io), 44 PE13 (io), 45 PE14 (io), 46 PE15 (io), 47 PB10/I2C2_SCL/USART3_TX (io), 48 PB11/I2C2_SDA/USART3_RX (io), 49 VSS_1 (power), 50 VDD_1 (power), 51 PB12/SPI2_NSS/I2C2_SMBAl/USART3_CK/TIM1_BKIN (io), 52 PB13/SPI2_SCK/USART3_CTS/TIM1_CH1N (io), 53 PB14/SPI2_MISO/USART3_RTS/TIM1_CH2N (io), 54 PB15/SPI2_MOSI/TIM1_CH3N (io), 55 PD8 (io), 56 PD9 (io), 57 PD10 (io), 58 PD11 (io), 59 PD12 (io), 60 PD13 (io), 61 PD14 (io), 62 PD15 (io), 63 PC6 (io), 64 PC7 (io), 65 PC8 (io), 66 PC9 (io), 67 PA8/USART1_CK/TIM1_CH1/MCO (io), 68 PA9/USART1_TX/TIM1_CH2 (io), 69 PA10/USART1_RX/TIM1_CH3 (io), 70 PA11/USART1_CTS/CANRX/USBDM/TIM1_CH4 (io), 71 PA12/USART1_RTS/CANTX/USBDP/TIM1_ETR (io), 72 PA13/JTMS/SWDIO (io), 73 NC, 74 VSS_2 (power), 75 VDD_2 (power), 76 PA14/JTCK/SWCLK (io), 77 PA15/JTDI (io), 78 PC10 (io), 79 PC11 (io), 80 PC12 (io), 81 PD0 (io), 82 PD1 (io), 83 TIM3_ETR/PD2 (io), 84 PD3 (io), 85 PD4 (io), 86 PD5 (io), 87 PD6 (io), 88 PD7 (io), 89 PB3/JTDO (io), 90 PB4/JNTRST (io), 91 PB5/ I2C1_SMBAI (io), 92 PB6/I2C1_SCL/TIM4_CH1 (io), 93 PB7/I2C1_SDA/TIM4_CH2 (io), 94 BOOT0 (in), 95 PB8/TIM4_CH3 (io), 96 PB9/TIM4_CH4 (io), 97 PE0 (io), 98 PE1 (io), 99 VSS_3 (power), 100 VDD_3 (power)